# Altium schematic symbol library RK3128_BETA_V03_20151231_Library.SchLib: 45 symbols
Pins are listed as number, name and electrical type; pins without a type are passive.

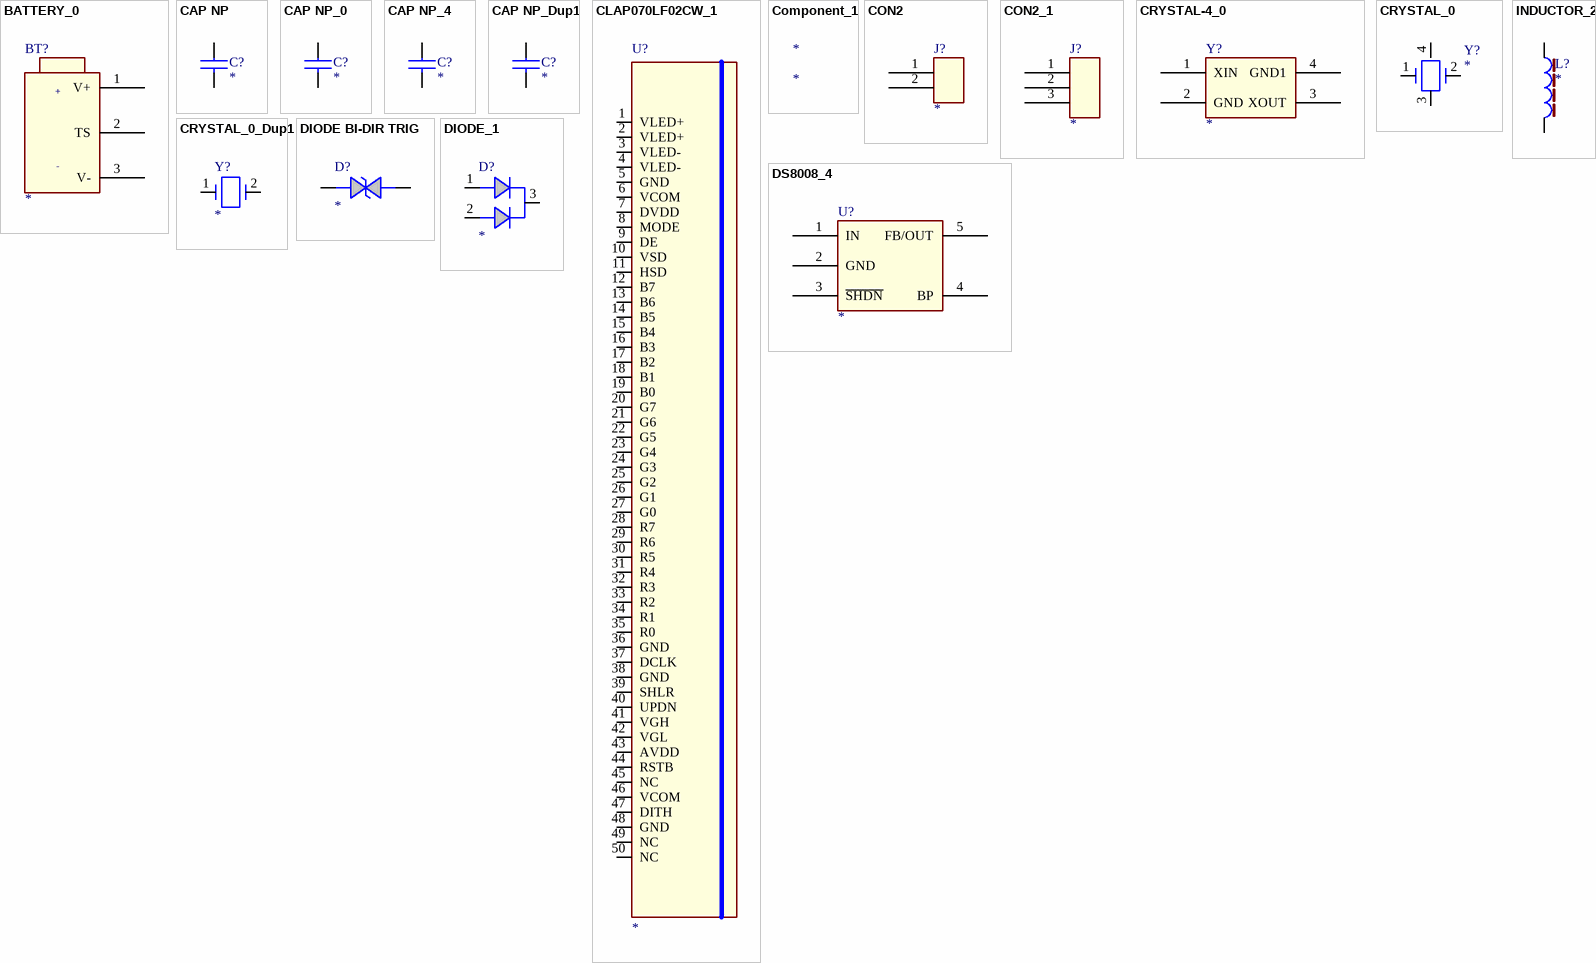
[diagram p0: symbols BATTERY_0 to INDUCTOR_2]

## BATTERY_0
designator BT?
pins: 1 V+, 2 TS, 3 V-
text: +; -

## CAP NP
designator C?
footprint C0402
pins: 1, 2

## CAP NP_0
designator C?
pins: 1, 2

## CAP NP_4
designator C?
pins: 1, 2

## CAP NP_Dup1
designator C?
footprint C0603
pins: 1, 2

## CLAP070LF02CW_1
designator U?
pins: 1 VLED+, 2 VLED+, 3 VLED-, 4 VLED-, 5 GND, 6 VCOM, 7 DVDD, 8 MODE, 9 DE, 10 VSD, 11 HSD, 12 B7, 13 B6, 14 B5, 15 B4, 16 B3, 17 B2, 18 B1, 19 B0, 20 G7, 21 G6, 22 G5, 23 G4, 24 G3, 25 G2, 26 G1, 27 G0, 28 R7, 29 R6, 30 R5, 31 R4, 32 R3, 33 R2, 34 R1, 35 R0, 36 GND, 37 DCLK, 38 GND, 39 SHLR, 40 UPDN, 41 VGH, 42 VGL, 43 AVDD, 44 RSTB, 45 NC, 46 VCOM, 47 DITH, 48 GND, 49 NC, 50 NC

## Component_1
designator *

## CON2
designator J?
pins: 1, 2

## CON2_1
designator J?
pins: 1, 2, 3

## CRYSTAL-4_0
designator Y?
footprint CRY-3225
pins: 1 XIN, 2 GND, 3 XOUT, 4 GND1

## CRYSTAL_0
designator Y?
pins: 1, 2, 3, 4

## CRYSTAL_0_Dup1
designator Y?
pins: 1, 2

## DIODE BI-DIR TRIG
designator D?
pins: 1, 2

## DIODE_1
designator D?
pins: 1 A1, 2 A2, 3 K

## DS8008_4
designator U?
pins: 1 IN, 2 GND, 3 ~{SHDN}, 4 BP, 5 FB/OUT

## INDUCTOR_2
designator L?
pins: 1, 2

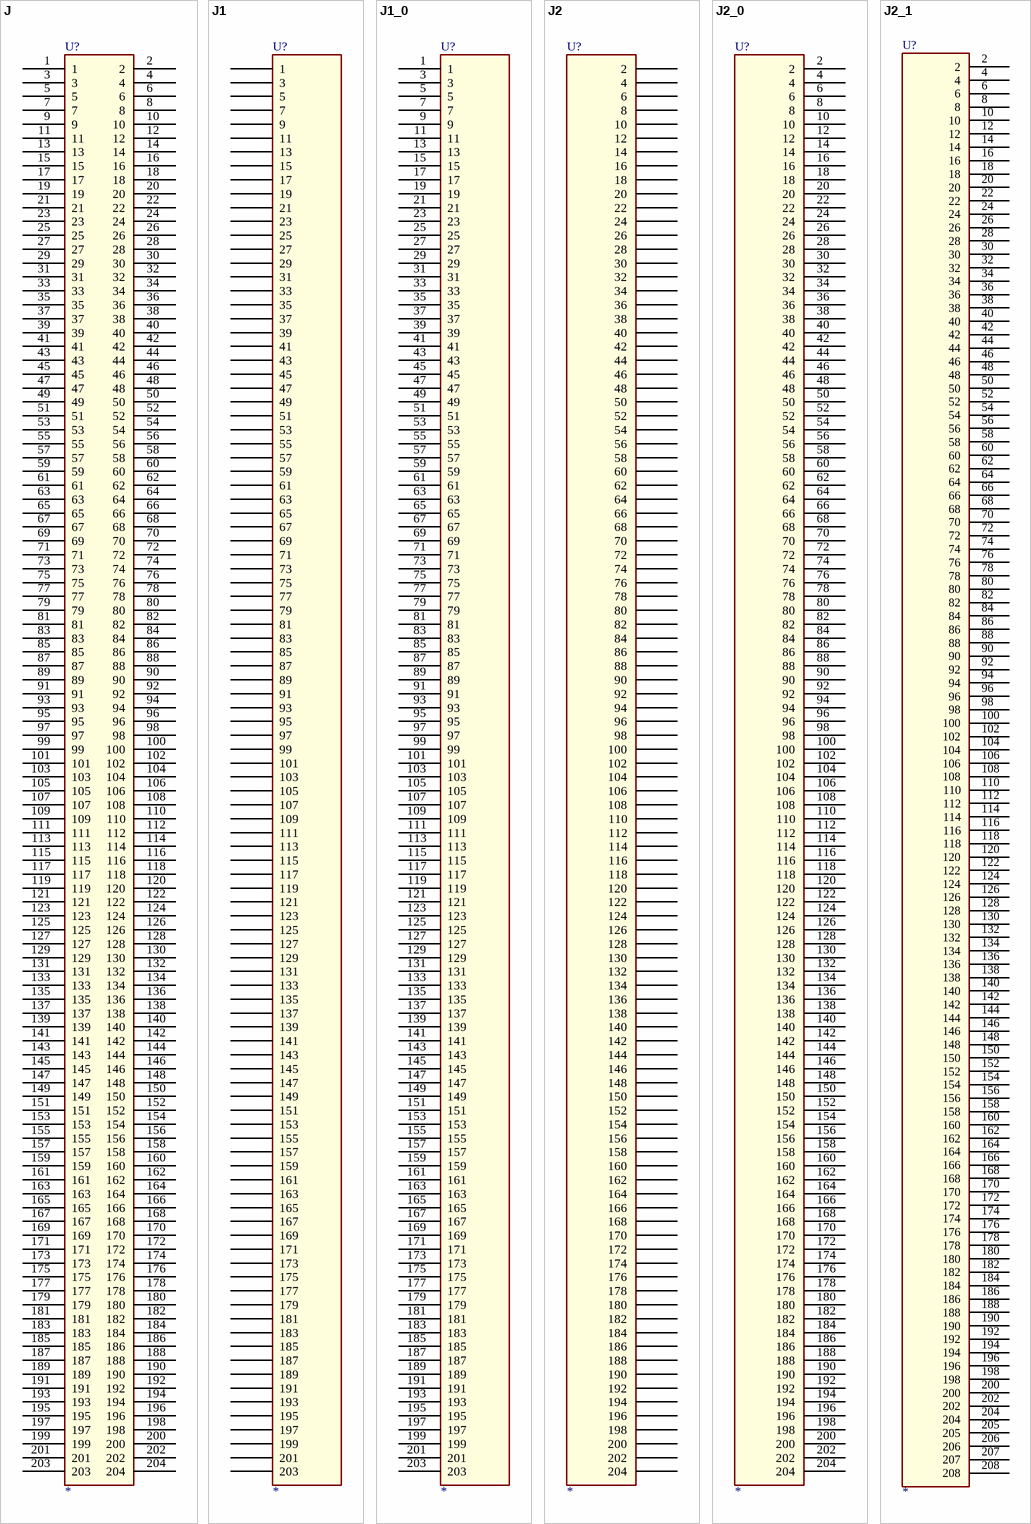
[diagram p1: symbols J to J2_1]

## J
designator U?
pins: 1, 2, 3, 4, 5, 6, 7, 8, 9, 10, 11, 12, 13, 14, 15, 16, 17, 18, 19, 20, 21, 22, 23, 24, 25, 26, 27, 28, 29, 30, 31, 32, 33, 34, 35, 36, 37, 38, 39, 40, 41, 42, 43, 44, 45, 46, 47, 48, 49, 50, 51, 52, 53, 54, 55, 56, 57, 58, 59, 60, 61, 62, 63, 64, 65, 66, 67, 68, 69, 70, 71, 72, 73, 74, 75, 76, 77, 78, 79, 80, 81, 82, 83, 84, 85, 86, 87, 88, 89, 90, 91, 92, 93, 94, 95, 96, 97, 98, 99, 100, 101, 102, 103, 104, 105, 106, 107, 108, 109, 110, 111, 112, 113, 114, 115, 116, 117, 118, 119, 120, 121, 122, 123, 124, 125, 126, 127, 128, 129, 130, 131, 132, 133, 134, 135, 136, 137, 138, 139, 140, 141, 142, 143, 144, 145, 146, 147, 148, 149, 150, 151, 152, 153, 154, 155, 156, 157, 158, 159, 160, 161, 162, 163, 164, 165, 166, 167, 168, 169, 170, 171, 172, 173, 174, 175, 176, 177, 178, 179, 180, 181, 182, 183, 184, 185, 186, 187, 188, 189, 190, 191, 192, 193, 194, 195, 196, 197, 198, 199, 200, 201, 202, 203, 204

## J1
designator U?
pins: 1, 3, 5, 7, 9, 11, 13, 15, 17, 19, 21, 23, 25, 27, 29, 31, 33, 35, 37, 39, 41, 43, 45, 47, 49, 51, 53, 55, 57, 59, 61, 63, 65, 67, 69, 71, 73, 75, 77, 79, 81, 83, 85, 87, 89, 91, 93, 95, 97, 99, 101, 103, 105, 107, 109, 111, 113, 115, 117, 119, 121, 123, 125, 127, 129, 131, 133, 135, 137, 139, 141, 143, 145, 147, 149, 151, 153, 155, 157, 159, 161, 163, 165, 167, 169, 171, 173, 175, 177, 179, 181, 183, 185, 187, 189, 191, 193, 195, 197, 199, 201, 203

## J1_0
designator U?
pins: 1, 3, 5, 7, 9, 11, 13, 15, 17, 19, 21, 23, 25, 27, 29, 31, 33, 35, 37, 39, 41, 43, 45, 47, 49, 51, 53, 55, 57, 59, 61, 63, 65, 67, 69, 71, 73, 75, 77, 79, 81, 83, 85, 87, 89, 91, 93, 95, 97, 99, 101, 103, 105, 107, 109, 111, 113, 115, 117, 119, 121, 123, 125, 127, 129, 131, 133, 135, 137, 139, 141, 143, 145, 147, 149, 151, 153, 155, 157, 159, 161, 163, 165, 167, 169, 171, 173, 175, 177, 179, 181, 183, 185, 187, 189, 191, 193, 195, 197, 199, 201, 203

## J2
designator U?
pins: 2, 4, 6, 8, 10, 12, 14, 16, 18, 20, 22, 24, 26, 28, 30, 32, 34, 36, 38, 40, 42, 44, 46, 48, 50, 52, 54, 56, 58, 60, 62, 64, 66, 68, 70, 72, 74, 76, 78, 80, 82, 84, 86, 88, 90, 92, 94, 96, 98, 100, 102, 104, 106, 108, 110, 112, 114, 116, 118, 120, 122, 124, 126, 128, 130, 132, 134, 136, 138, 140, 142, 144, 146, 148, 150, 152, 154, 156, 158, 160, 162, 164, 166, 168, 170, 172, 174, 176, 178, 180, 182, 184, 186, 188, 190, 192, 194, 196, 198, 200, 202, 204

## J2_0
designator U?
pins: 2, 4, 6, 8, 10, 12, 14, 16, 18, 20, 22, 24, 26, 28, 30, 32, 34, 36, 38, 40, 42, 44, 46, 48, 50, 52, 54, 56, 58, 60, 62, 64, 66, 68, 70, 72, 74, 76, 78, 80, 82, 84, 86, 88, 90, 92, 94, 96, 98, 100, 102, 104, 106, 108, 110, 112, 114, 116, 118, 120, 122, 124, 126, 128, 130, 132, 134, 136, 138, 140, 142, 144, 146, 148, 150, 152, 154, 156, 158, 160, 162, 164, 166, 168, 170, 172, 174, 176, 178, 180, 182, 184, 186, 188, 190, 192, 194, 196, 198, 200, 202, 204

## J2_1
designator U?
pins: 2, 4, 6, 8, 10, 12, 14, 16, 18, 20, 22, 24, 26, 28, 30, 32, 34, 36, 38, 40, 42, 44, 46, 48, 50, 52, 54, 56, 58, 60, 62, 64, 66, 68, 70, 72, 74, 76, 78, 80, 82, 84, 86, 88, 90, 92, 94, 96, 98, 100, 102, 104, 106, 108, 110, 112, 114, 116, 118, 120, 122, 124, 126, 128, 130, 132, 134, 136, 138, 140, 142, 144, 146, 148, 150, 152, 154, 156, 158, 160, 162, 164, 166, 168, 170, 172, 174, 176, 178, 180, 182, 184, 186, 188, 190, 192, 194, 196, 198, 200, 202, 204, 205, 206, 207, 208

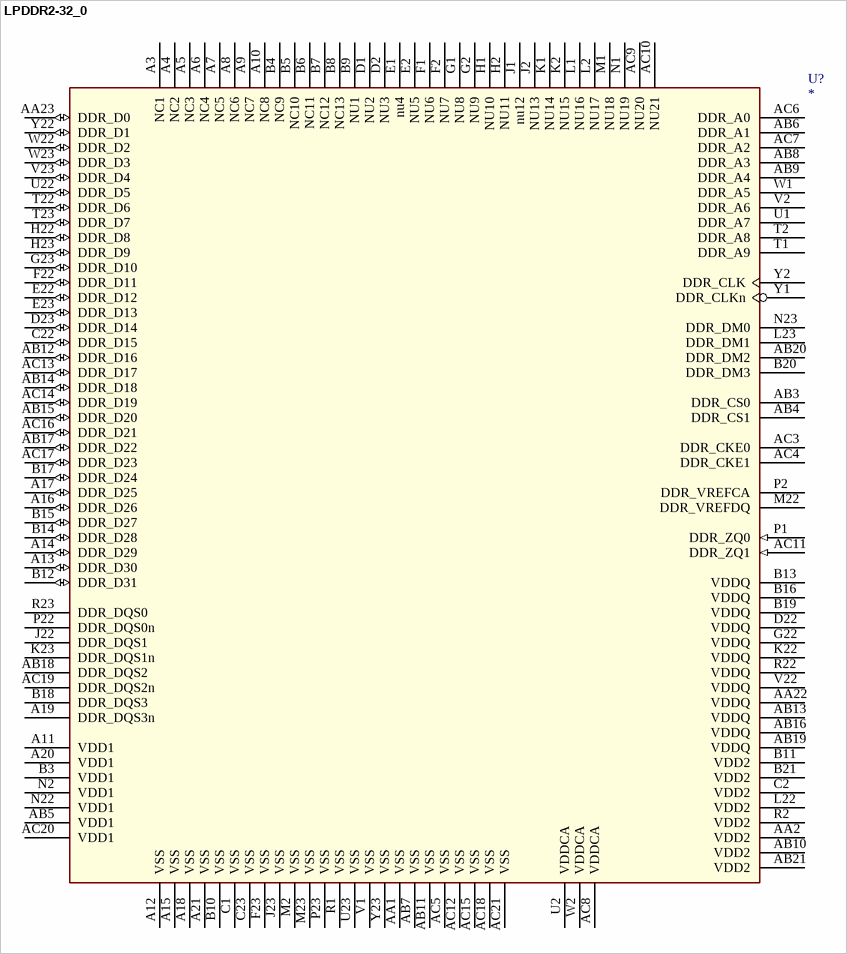
[diagram p2: symbol LPDDR2-32_0]

## LPDDR2-32_0
designator U?
footprint BGA134
pins: A3 NC1, A4 NC2, A5 NC3, A6 NC4, A7 NC5, A8 NC6, A9 NC7, A10 NC8, A11 VDD1 (power), A12 VSS (power), A13 DDR_D30 (io), A14 DDR_D29 (io), A15 VSS (power), A16 DDR_D26 (io), A17 DDR_D25 (io), A18 VSS (power), A19 DDR_DQS3n, A20 VDD1 (power), A21 VSS (power), AA1 VSS (power), AA2 VDD2 (power), AA22 VDDQ (power), AA23 DDR_D0 (io), AB3 DDR_CS0, AB4 DDR_CS1, AB5 VDD1 (power), AB6 DDR_A1, AB7 VSS (power), AB8 DDR_A3, AB9 DDR_A4, AB10 VDD2 (power), AB11 VSS (power), AB12 DDR_D16 (io), AB13 VDDQ (power), AB14 DDR_D18 (io), AB15 DDR_D20 (io), AB16 VDDQ (power), AB17 DDR_D22 (io), AB18 DDR_DQS2, AB19 VDDQ (power), AB20 DDR_DM2, AB21 VDD2 (power), AC3 DDR_CKE0, AC4 DDR_CKE1, AC5 VSS (power), AC6 DDR_A0, AC7 DDR_A2, AC8 VDDCA (power), AC9 NU20, AC10 NU21, AC11 DDR_ZQ1 (in), AC12 VSS (power), AC13 DDR_D17 (io), AC14 DDR_D19 (io), AC15 VSS (power), AC16 DDR_D21 (io), AC17 DDR_D23 (io), AC18 VSS (power), AC19 DDR_DQS2n, AC20 VDD1 (power), AC21 VSS (power), B3 VDD1 (power), B4 NC9, B5 NC10, B6 NC11, B7 NC12, B8 NC13, B9 NU1, B10 VSS (power), B11 VDD2 (power), B12 DDR_D31 (io), B13 VDDQ (power), B14 DDR_D28 (io), B15 DDR_D27 (io), B16 VDDQ (power), B17 DDR_D24 (io), B18 DDR_DQS3, B19 VDDQ (power), B20 DDR_DM3, B21 VDD2 (power), C1 VSS (power), C2 VDD2 (power), C22 DDR_D15 (io), C23 VSS (power), D1 NU2, D2 NU3, D22 VDDQ (power), D23 DDR_D14 (io), E1 nu4, E2 NU5, E22 DDR_D12 (io), E23 DDR_D13 (io), F1 NU6, F2 NU7, F22 DDR_D11 (io), F23 VSS (power), G1 NU8, G2 NU9, G22 VDDQ (power), G23 DDR_D10 (io), H1 NU10, H2 NU11, H22 DDR_D8 (io), H23 DDR_D9 (io), J1 nu12, J2 NU13, J22 DDR_DQS1, J23 VSS (power), K1 NU14, K2 NU15, K22 VDDQ (power), K23 DDR_DQS1n, L1 NU16, L2 NU17, L22 VDD2 (power), L23 DDR_DM1, M1 NU18, M2 VSS (power), M22 DDR_VREFDQ (power), M23 VSS (power), N1 NU19, N2 VDD1 (power), N22 VDD1 (power), N23 DDR_DM0, P1 DDR_ZQ0 (in), P2 DDR_VREFCA, P22 DDR_DQS0n, P23 VSS (power), R1 VSS (power), R2 VDD2 (power), R22 VDDQ (power), R23 DDR_DQS0, T1 DDR_A9, T2 DDR_A8, T22 DDR_D6 (io), T23 DDR_D7 (io), U1 DDR_A7, U2 VDDCA (power), U22 DDR_D5 (io), U23 VSS (power), V1 VSS (power), V2 DDR_A6, V22 VDDQ (power), V23 DDR_D4 (io), W1 DDR_A5, W2 VDDCA (power), W22 DDR_D2 (io), W23 DDR_D3 (io), Y1 DDR_CLKn, Y2 DDR_CLK, Y22 DDR_D1 (io), Y23 VSS (power)

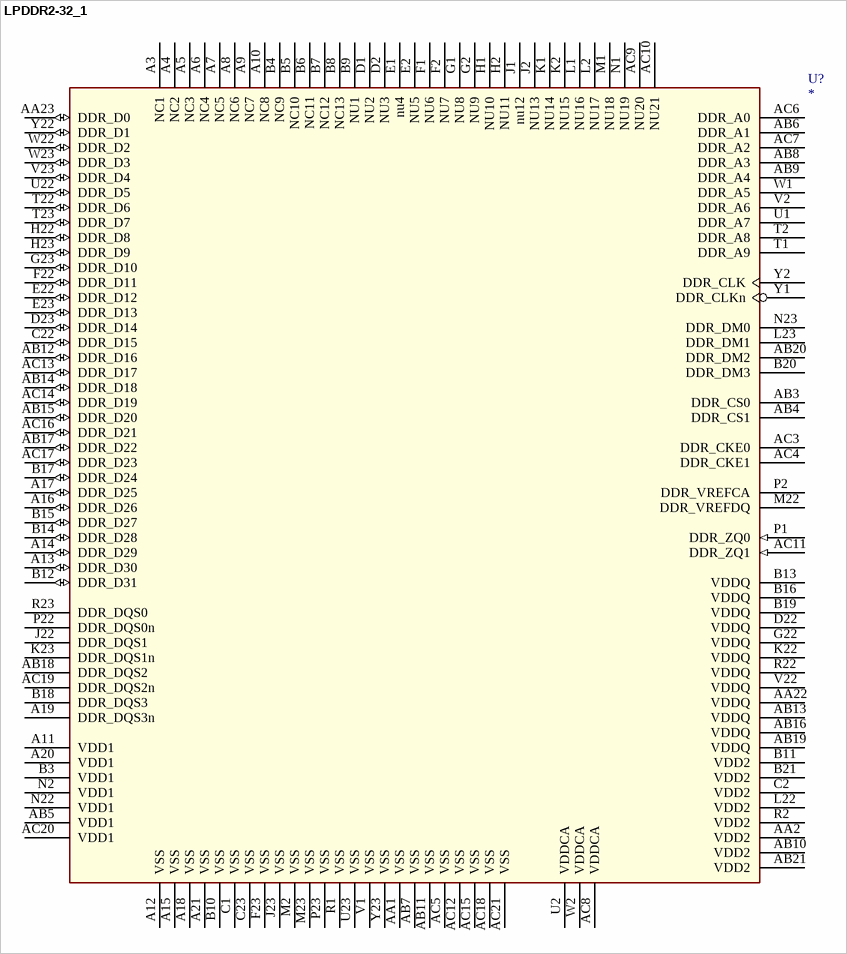
[diagram p3: symbol LPDDR2-32_1]

## LPDDR2-32_1
designator U?
footprint BGA134
pins: A3 NC1, A4 NC2, A5 NC3, A6 NC4, A7 NC5, A8 NC6, A9 NC7, A10 NC8, A11 VDD1 (power), A12 VSS (power), A13 DDR_D30 (io), A14 DDR_D29 (io), A15 VSS (power), A16 DDR_D26 (io), A17 DDR_D25 (io), A18 VSS (power), A19 DDR_DQS3n, A20 VDD1 (power), A21 VSS (power), AA1 VSS (power), AA2 VDD2 (power), AA22 VDDQ (power), AA23 DDR_D0 (io), AB3 DDR_CS0, AB4 DDR_CS1, AB5 VDD1 (power), AB6 DDR_A1, AB7 VSS (power), AB8 DDR_A3, AB9 DDR_A4, AB10 VDD2 (power), AB11 VSS (power), AB12 DDR_D16 (io), AB13 VDDQ (power), AB14 DDR_D18 (io), AB15 DDR_D20 (io), AB16 VDDQ (power), AB17 DDR_D22 (io), AB18 DDR_DQS2, AB19 VDDQ (power), AB20 DDR_DM2, AB21 VDD2 (power), AC3 DDR_CKE0, AC4 DDR_CKE1, AC5 VSS (power), AC6 DDR_A0, AC7 DDR_A2, AC8 VDDCA (power), AC9 NU20, AC10 NU21, AC11 DDR_ZQ1 (in), AC12 VSS (power), AC13 DDR_D17 (io), AC14 DDR_D19 (io), AC15 VSS (power), AC16 DDR_D21 (io), AC17 DDR_D23 (io), AC18 VSS (power), AC19 DDR_DQS2n, AC20 VDD1 (power), AC21 VSS (power), B3 VDD1 (power), B4 NC9, B5 NC10, B6 NC11, B7 NC12, B8 NC13, B9 NU1, B10 VSS (power), B11 VDD2 (power), B12 DDR_D31 (io), B13 VDDQ (power), B14 DDR_D28 (io), B15 DDR_D27 (io), B16 VDDQ (power), B17 DDR_D24 (io), B18 DDR_DQS3, B19 VDDQ (power), B20 DDR_DM3, B21 VDD2 (power), C1 VSS (power), C2 VDD2 (power), C22 DDR_D15 (io), C23 VSS (power), D1 NU2, D2 NU3, D22 VDDQ (power), D23 DDR_D14 (io), E1 nu4, E2 NU5, E22 DDR_D12 (io), E23 DDR_D13 (io), F1 NU6, F2 NU7, F22 DDR_D11 (io), F23 VSS (power), G1 NU8, G2 NU9, G22 VDDQ (power), G23 DDR_D10 (io), H1 NU10, H2 NU11, H22 DDR_D8 (io), H23 DDR_D9 (io), J1 nu12, J2 NU13, J22 DDR_DQS1, J23 VSS (power), K1 NU14, K2 NU15, K22 VDDQ (power), K23 DDR_DQS1n, L1 NU16, L2 NU17, L22 VDD2 (power), L23 DDR_DM1, M1 NU18, M2 VSS (power), M22 DDR_VREFDQ (power), M23 VSS (power), N1 NU19, N2 VDD1 (power), N22 VDD1 (power), N23 DDR_DM0, P1 DDR_ZQ0 (in), P2 DDR_VREFCA, P22 DDR_DQS0n, P23 VSS (power), R1 VSS (power), R2 VDD2 (power), R22 VDDQ (power), R23 DDR_DQS0, T1 DDR_A9, T2 DDR_A8, T22 DDR_D6 (io), T23 DDR_D7 (io), U1 DDR_A7, U2 VDDCA (power), U22 DDR_D5 (io), U23 VSS (power), V1 VSS (power), V2 DDR_A6, V22 VDDQ (power), V23 DDR_D4 (io), W1 DDR_A5, W2 VDDCA (power), W22 DDR_D2 (io), W23 DDR_D3 (io), Y1 DDR_CLKn, Y2 DDR_CLK, Y22 DDR_D1 (io), Y23 VSS (power)

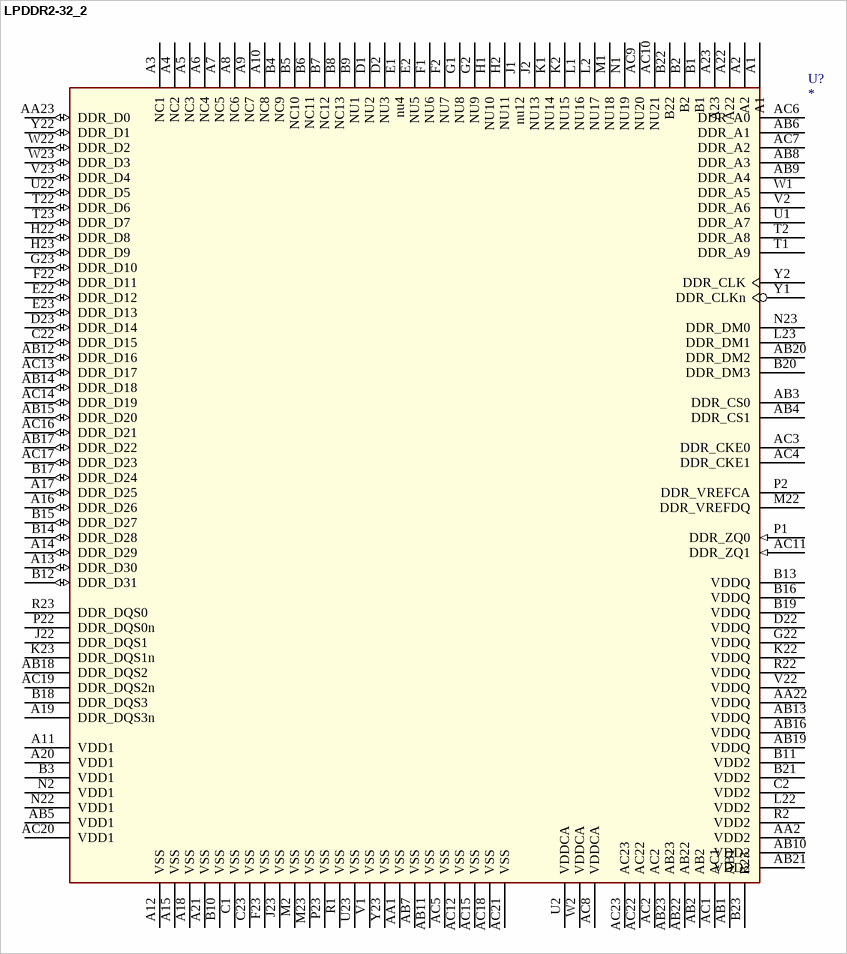
[diagram p4: symbol LPDDR2-32_2]

## LPDDR2-32_2
designator U?
footprint BGA134
pins: A1, A2, A3 NC1, A4 NC2, A5 NC3, A6 NC4, A7 NC5, A8 NC6, A9 NC7, A10 NC8, A11 VDD1 (power), A12 VSS (power), A13 DDR_D30 (io), A14 DDR_D29 (io), A15 VSS (power), A16 DDR_D26 (io), A17 DDR_D25 (io), A18 VSS (power), A19 DDR_DQS3n, A20 VDD1 (power), A21 VSS (power), A22, A23, AA1 VSS (power), AA2 VDD2 (power), AA22 VDDQ (power), AA23 DDR_D0 (io), AB1 (power), AB2 (power), AB3 DDR_CS0, AB4 DDR_CS1, AB5 VDD1 (power), AB6 DDR_A1, AB7 VSS (power), AB8 DDR_A3, AB9 DDR_A4, AB10 VDD2 (power), AB11 VSS (power), AB12 DDR_D16 (io), AB13 VDDQ (power), AB14 DDR_D18 (io), AB15 DDR_D20 (io), AB16 VDDQ (power), AB17 DDR_D22 (io), AB18 DDR_DQS2, AB19 VDDQ (power), AB20 DDR_DM2, AB21 VDD2 (power), AB22 (power), AB23 (power), AC1 (power), AC2 (power), AC3 DDR_CKE0, AC4 DDR_CKE1, AC5 VSS (power), AC6 DDR_A0, AC7 DDR_A2, AC8 VDDCA (power), AC9 NU20, AC10 NU21, AC11 DDR_ZQ1 (in), AC12 VSS (power), AC13 DDR_D17 (io), AC14 DDR_D19 (io), AC15 VSS (power), AC16 DDR_D21 (io), AC17 DDR_D23 (io), AC18 VSS (power), AC19 DDR_DQS2n, AC20 VDD1 (power), AC21 VSS (power), AC22 (power), AC23 (power), B1, B2, B3 VDD1 (power), B4 NC9, B5 NC10, B6 NC11, B7 NC12, B8 NC13, B9 NU1, B10 VSS (power), B11 VDD2 (power), B12 DDR_D31 (io), B13 VDDQ (power), B14 DDR_D28 (io), B15 DDR_D27 (io), B16 VDDQ (power), B17 DDR_D24 (io), B18 DDR_DQS3, B19 VDDQ (power), B20 DDR_DM3, B21 VDD2 (power), B22, B23 (power), C1 VSS (power), C2 VDD2 (power), C22 DDR_D15 (io), C23 VSS (power), D1 NU2, D2 NU3, D22 VDDQ (power), D23 DDR_D14 (io), E1 nu4, E2 NU5, E22 DDR_D12 (io), E23 DDR_D13 (io), F1 NU6, F2 NU7, F22 DDR_D11 (io), F23 VSS (power), G1 NU8, G2 NU9, G22 VDDQ (power), G23 DDR_D10 (io), H1 NU10, H2 NU11, H22 DDR_D8 (io), H23 DDR_D9 (io), J1 nu12, J2 NU13, J22 DDR_DQS1, J23 VSS (power), K1 NU14, K2 NU15, K22 VDDQ (power), K23 DDR_DQS1n, L1 NU16, L2 NU17, L22 VDD2 (power), L23 DDR_DM1, M1 NU18, M2 VSS (power), M22 DDR_VREFDQ (power), M23 VSS (power), N1 NU19, N2 VDD1 (power), N22 VDD1 (power), N23 DDR_DM0, P1 DDR_ZQ0 (in), P2 DDR_VREFCA, P22 DDR_DQS0n, P23 VSS (power), R1 VSS (power), R2 VDD2 (power), R22 VDDQ (power), R23 DDR_DQS0, T1 DDR_A9, T2 DDR_A8, T22 DDR_D6 (io), T23 DDR_D7 (io), U1 DDR_A7, U2 VDDCA (power), U22 DDR_D5 (io), U23 VSS (power), V1 VSS (power), V2 DDR_A6, V22 VDDQ (power), V23 DDR_D4 (io), W1 DDR_A5, W2 VDDCA (power), W22 DDR_D2 (io), W23 DDR_D3 (io), Y1 DDR_CLKn, Y2 DDR_CLK, Y22 DDR_D1 (io), Y23 VSS (power)

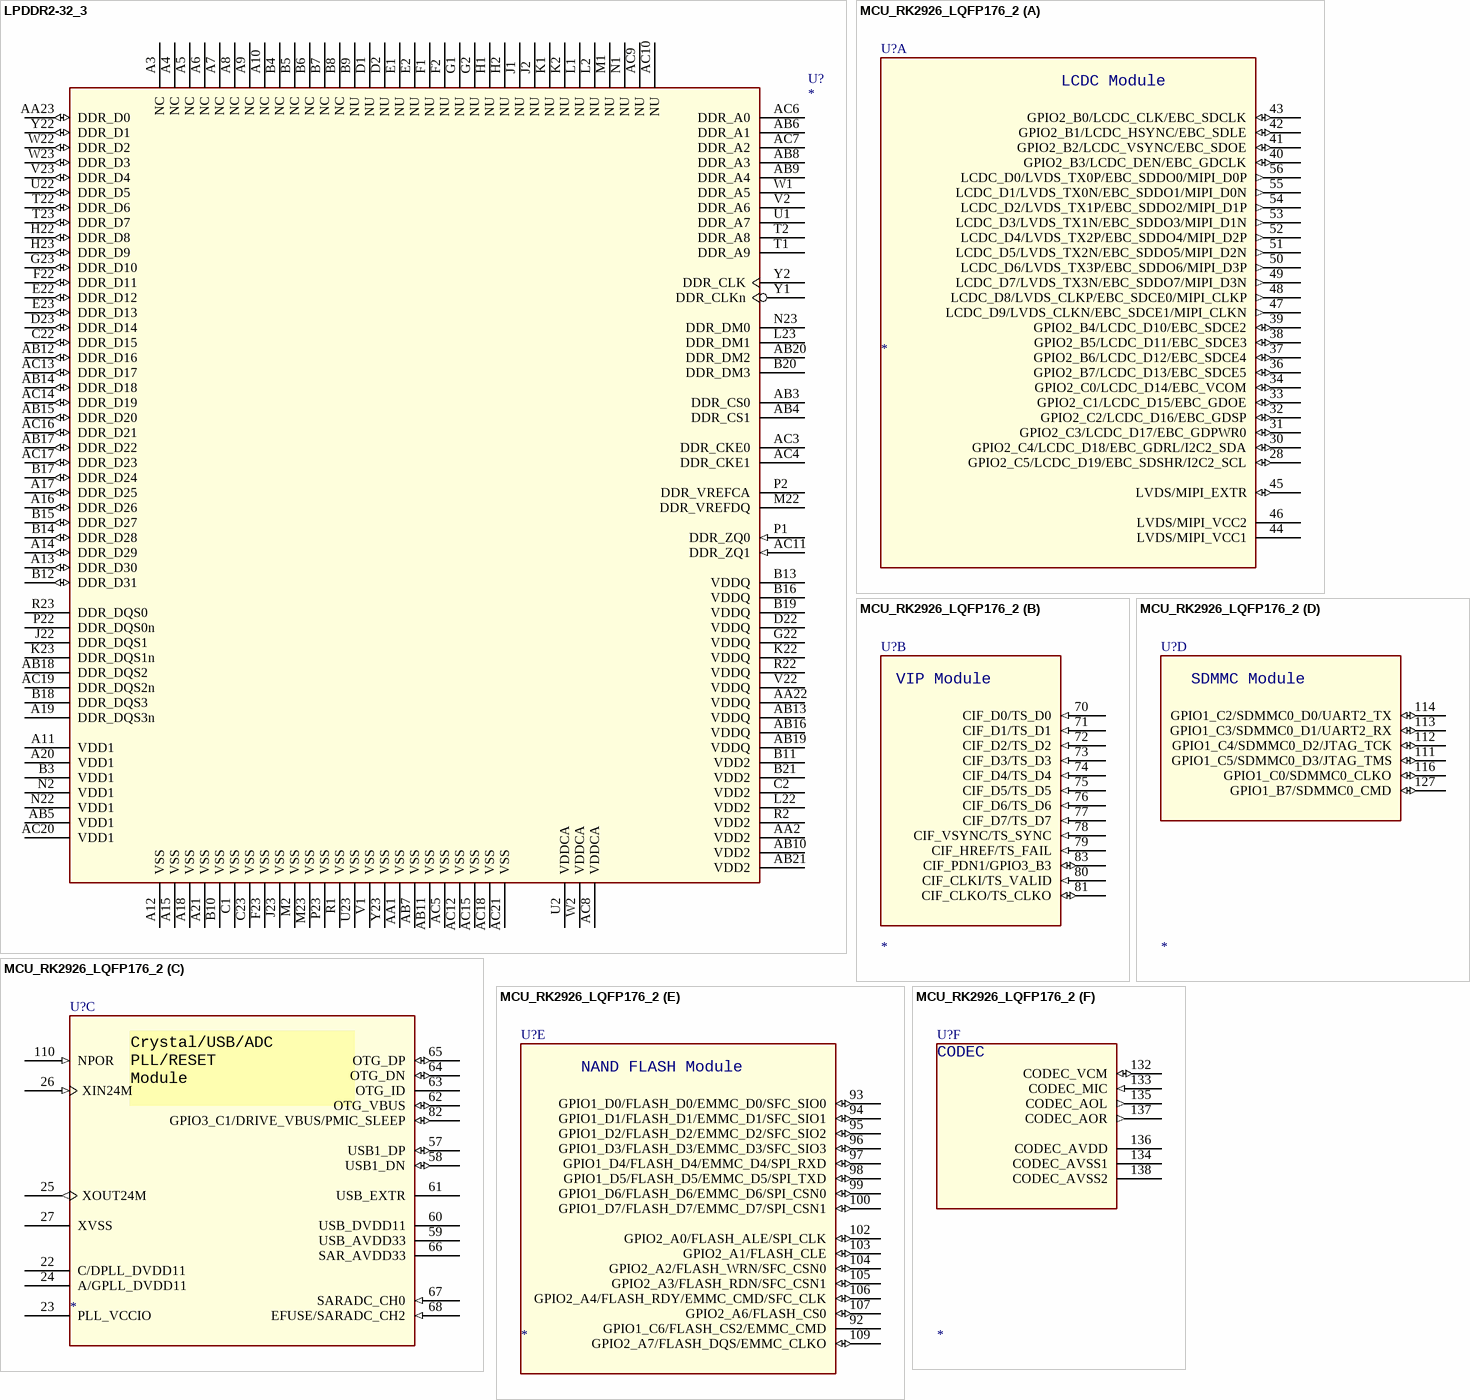
[diagram p5: symbols LPDDR2-32_3 to MCU_RK2926_LQFP176_2]

## LPDDR2-32_3
designator U?
footprint BGA134
pins: A3 NC, A4 NC, A5 NC, A6 NC, A7 NC, A8 NC, A9 NC, A10 NC, A11 VDD1 (power), A12 VSS (power), A13 DDR_D30 (io), A14 DDR_D29 (io), A15 VSS (power), A16 DDR_D26 (io), A17 DDR_D25 (io), A18 VSS (power), A19 DDR_DQS3n, A20 VDD1 (power), A21 VSS (power), AA1 VSS (power), AA2 VDD2 (power), AA22 VDDQ (power), AA23 DDR_D0 (io), AB3 DDR_CS0, AB4 DDR_CS1, AB5 VDD1 (power), AB6 DDR_A1, AB7 VSS (power), AB8 DDR_A3, AB9 DDR_A4, AB10 VDD2 (power), AB11 VSS (power), AB12 DDR_D16 (io), AB13 VDDQ (power), AB14 DDR_D18 (io), AB15 DDR_D20 (io), AB16 VDDQ (power), AB17 DDR_D22 (io), AB18 DDR_DQS2, AB19 VDDQ (power), AB20 DDR_DM2, AB21 VDD2 (power), AC3 DDR_CKE0, AC4 DDR_CKE1, AC5 VSS (power), AC6 DDR_A0, AC7 DDR_A2, AC8 VDDCA (power), AC9 NU, AC10 NU, AC11 DDR_ZQ1 (in), AC12 VSS (power), AC13 DDR_D17 (io), AC14 DDR_D19 (io), AC15 VSS (power), AC16 DDR_D21 (io), AC17 DDR_D23 (io), AC18 VSS (power), AC19 DDR_DQS2n, AC20 VDD1 (power), AC21 VSS (power), B3 VDD1 (power), B4 NC, B5 NC, B6 NC, B7 NC, B8 NC, B9 NU, B10 VSS (power), B11 VDD2 (power), B12 DDR_D31 (io), B13 VDDQ (power), B14 DDR_D28 (io), B15 DDR_D27 (io), B16 VDDQ (power), B17 DDR_D24 (io), B18 DDR_DQS3, B19 VDDQ (power), B20 DDR_DM3, B21 VDD2 (power), C1 VSS (power), C2 VDD2 (power), C22 DDR_D15 (io), C23 VSS (power), D1 NU, D2 NU, D22 VDDQ (power), D23 DDR_D14 (io), E1 NU, E2 NU, E22 DDR_D12 (io), E23 DDR_D13 (io), F1 NU, F2 NU, F22 DDR_D11 (io), F23 VSS (power), G1 NU, G2 NU, G22 VDDQ (power), G23 DDR_D10 (io), H1 NU, H2 NU, H22 DDR_D8 (io), H23 DDR_D9 (io), J1 NU, J2 NU, J22 DDR_DQS1, J23 VSS (power), K1 NU, K2 NU, K22 VDDQ (power), K23 DDR_DQS1n, L1 NU, L2 NU, L22 VDD2 (power), L23 DDR_DM1, M1 NU, M2 VSS (power), M22 DDR_VREFDQ (power), M23 VSS (power), N1 NU, N2 VDD1 (power), N22 VDD1 (power), N23 DDR_DM0, P1 DDR_ZQ0 (in), P2 DDR_VREFCA, P22 DDR_DQS0n, P23 VSS (power), R1 VSS (power), R2 VDD2 (power), R22 VDDQ (power), R23 DDR_DQS0, T1 DDR_A9, T2 DDR_A8, T22 DDR_D6 (io), T23 DDR_D7 (io), U1 DDR_A7, U2 VDDCA (power), U22 DDR_D5 (io), U23 VSS (power), V1 VSS (power), V2 DDR_A6, V22 VDDQ (power), V23 DDR_D4 (io), W1 DDR_A5, W2 VDDCA (power), W22 DDR_D2 (io), W23 DDR_D3 (io), Y1 DDR_CLKn, Y2 DDR_CLK, Y22 DDR_D1 (io), Y23 VSS (power)

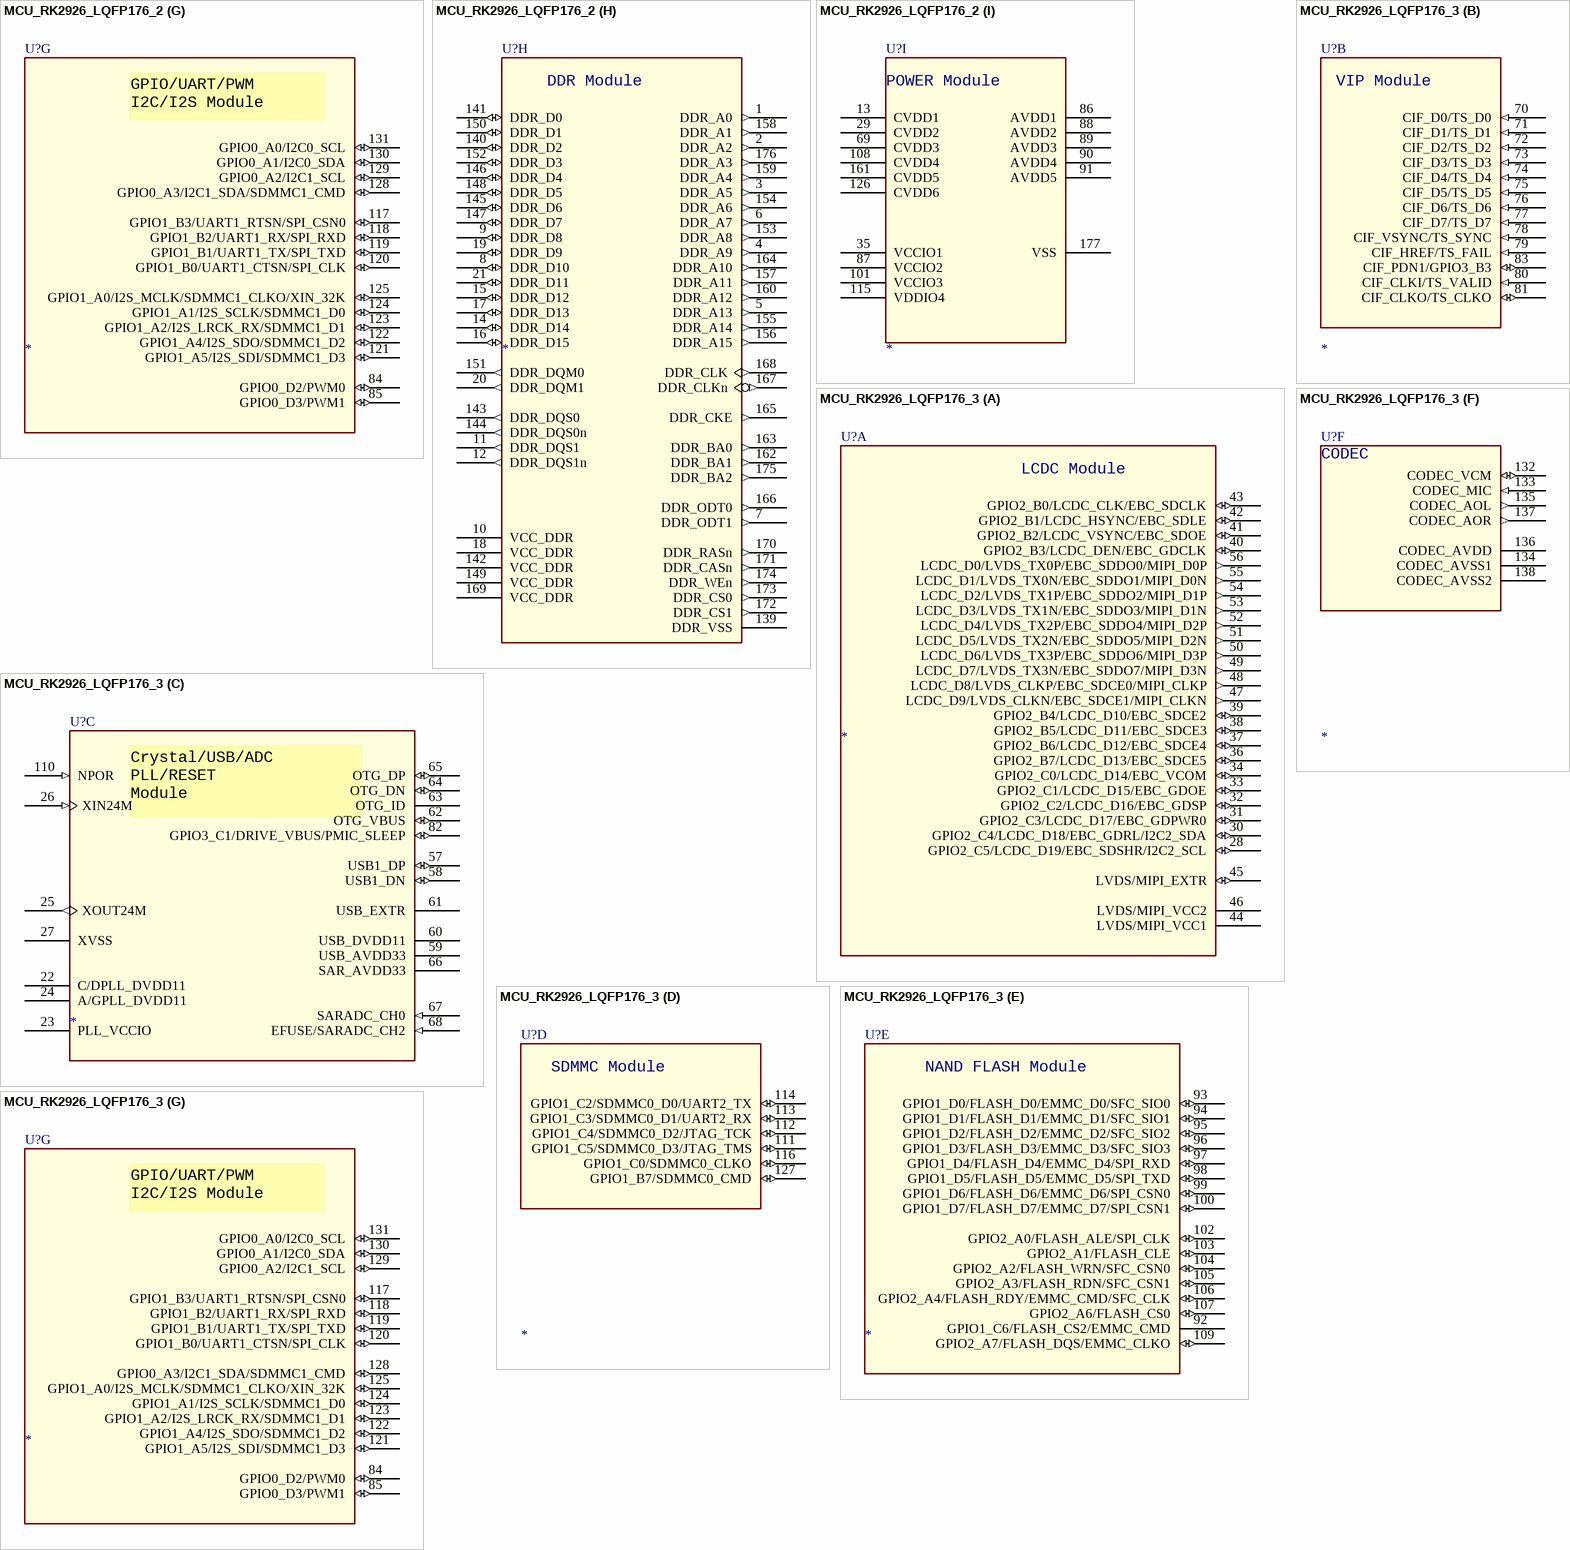
[diagram p6: symbols MCU_RK2926_LQFP176_2 to MCU_RK2926_LQFP176_3]

## MCU_RK2926_LQFP176_2
designator U?
footprint LQFP176_16X16
part A pins: 28 GPIO2_C5/LCDC_D19/EBC_SDSHR/I2C2_SCL (io), 30 GPIO2_C4/LCDC_D18/EBC_GDRL/I2C2_SDA (io), 31 GPIO2_C3/LCDC_D17/EBC_GDPWR0 (io), 32 GPIO2_C2/LCDC_D16/EBC_GDSP (io), 33 GPIO2_C1/LCDC_D15/EBC_GDOE (io), 34 GPIO2_C0/LCDC_D14/EBC_VCOM (io), 36 GPIO2_B7/LCDC_D13/EBC_SDCE5 (io), 37 GPIO2_B6/LCDC_D12/EBC_SDCE4 (io), 38 GPIO2_B5/LCDC_D11/EBC_SDCE3 (io), 39 GPIO2_B4/LCDC_D10/EBC_SDCE2 (io), 40 GPIO2_B3/LCDC_DEN/EBC_GDCLK (io), 41 GPIO2_B2/LCDC_VSYNC/EBC_SDOE (io), 42 GPIO2_B1/LCDC_HSYNC/EBC_SDLE (io), 43 GPIO2_B0/LCDC_CLK/EBC_SDCLK (io), 44 LVDS/MIPI_VCC1 (power), 45 LVDS/MIPI_EXTR (io), 46 LVDS/MIPI_VCC2 (power), 47 LCDC_D9/LVDS_CLKN/EBC_SDCE1/MIPI_CLKN (out), 48 LCDC_D8/LVDS_CLKP/EBC_SDCE0/MIPI_CLKP (out), 49 LCDC_D7/LVDS_TX3N/EBC_SDDO7/MIPI_D3N (out), 50 LCDC_D6/LVDS_TX3P/EBC_SDDO6/MIPI_D3P (out), 51 LCDC_D5/LVDS_TX2N/EBC_SDDO5/MIPI_D2N (out), 52 LCDC_D4/LVDS_TX2P/EBC_SDDO4/MIPI_D2P (out), 53 LCDC_D3/LVDS_TX1N/EBC_SDDO3/MIPI_D1N (out), 54 LCDC_D2/LVDS_TX1P/EBC_SDDO2/MIPI_D1P (out), 55 LCDC_D1/LVDS_TX0N/EBC_SDDO1/MIPI_D0N (out), 56 LCDC_D0/LVDS_TX0P/EBC_SDDO0/MIPI_D0P (out)
part B pins: 70 CIF_D0/TS_D0 (in), 71 CIF_D1/TS_D1 (in), 72 CIF_D2/TS_D2 (in), 73 CIF_D3/TS_D3 (in), 74 CIF_D4/TS_D4 (in), 75 CIF_D5/TS_D5 (in), 76 CIF_D6/TS_D6 (in), 77 CIF_D7/TS_D7 (in), 78 CIF_VSYNC/TS_SYNC (in), 79 CIF_HREF/TS_FAIL (in), 80 CIF_CLKI/TS_VALID (in), 81 CIF_CLKO/TS_CLKO (io), 83 CIF_PDN1/GPIO3_B3 (io)
part C pins: 22 C/DPLL_DVDD11 (power), 23 PLL_VCCIO (power), 24 A/GPLL_DVDD11 (power), 25 XOUT24M (out), 26 XIN24M (in), 27 XVSS (power), 57 USB1_DP (io), 58 USB1_DN (io), 59 USB_AVDD33 (power), 60 USB_DVDD11 (power), 61 USB_EXTR (power), 62 OTG_VBUS (io), 63 OTG_ID, 64 OTG_DN (io), 65 OTG_DP (io), 66 SAR_AVDD33 (power), 67 SARADC_CH0 (in), 68 EFUSE/SARADC_CH2 (in), 82 GPIO3_C1/DRIVE_VBUS/PMIC_SLEEP (io), 110 NPOR (in)
part D pins: 111 GPIO1_C5/SDMMC0_D3/JTAG_TMS (io), 112 GPIO1_C4/SDMMC0_D2/JTAG_TCK (io), 113 GPIO1_C3/SDMMC0_D1/UART2_RX (io), 114 GPIO1_C2/SDMMC0_D0/UART2_TX (io), 116 GPIO1_C0/SDMMC0_CLKO (io), 127 GPIO1_B7/SDMMC0_CMD (io)
part E pins: 92 GPIO1_C6/FLASH_CS2/EMMC_CMD, 93 GPIO1_D0/FLASH_D0/EMMC_D0/SFC_SIO0 (io), 94 GPIO1_D1/FLASH_D1/EMMC_D1/SFC_SIO1 (io), 95 GPIO1_D2/FLASH_D2/EMMC_D2/SFC_SIO2 (io), 96 GPIO1_D3/FLASH_D3/EMMC_D3/SFC_SIO3 (io), 97 GPIO1_D4/FLASH_D4/EMMC_D4/SPI_RXD (io), 98 GPIO1_D5/FLASH_D5/EMMC_D5/SPI_TXD (io), 99 GPIO1_D6/FLASH_D6/EMMC_D6/SPI_CSN0 (io), 100 GPIO1_D7/FLASH_D7/EMMC_D7/SPI_CSN1 (io), 102 GPIO2_A0/FLASH_ALE/SPI_CLK (io), 103 GPIO2_A1/FLASH_CLE (io), 104 GPIO2_A2/FLASH_WRN/SFC_CSN0 (io), 105 GPIO2_A3/FLASH_RDN/SFC_CSN1 (io), 106 GPIO2_A4/FLASH_RDY/EMMC_CMD/SFC_CLK (io), 107 GPIO2_A6/FLASH_CS0 (io), 109 GPIO2_A7/FLASH_DQS/EMMC_CLKO (io)
part F pins: 132 CODEC_VCM (io), 133 CODEC_MIC (in), 134 CODEC_AVSS1, 135 CODEC_AOL (out), 136 CODEC_AVDD (power), 137 CODEC_AOR (out), 138 CODEC_AVSS2
part G pins: 84 GPIO0_D2/PWM0 (io), 85 GPIO0_D3/PWM1 (io), 117 GPIO1_B3/UART1_RTSN/SPI_CSN0 (io), 118 GPIO1_B2/UART1_RX/SPI_RXD (io), 119 GPIO1_B1/UART1_TX/SPI_TXD (io), 120 GPIO1_B0/UART1_CTSN/SPI_CLK (io), 121 GPIO1_A5/I2S_SDI/SDMMC1_D3 (io), 122 GPIO1_A4/I2S_SDO/SDMMC1_D2 (io), 123 GPIO1_A2/I2S_LRCK_RX/SDMMC1_D1 (io), 124 GPIO1_A1/I2S_SCLK/SDMMC1_D0 (io), 125 GPIO1_A0/I2S_MCLK/SDMMC1_CLKO/XIN_32K (io), 128 GPIO0_A3/I2C1_SDA/SDMMC1_CMD (io), 129 GPIO0_A2/I2C1_SCL (io), 130 GPIO0_A1/I2C0_SDA (io), 131 GPIO0_A0/I2C0_SCL (io)
part H pins: 1 DDR_A0 (out), 2 DDR_A2 (out), 3 DDR_A5 (out), 4 DDR_A9 (out), 5 DDR_A13 (out), 6 DDR_A7 (out), 7 DDR_ODT1 (out), 8 DDR_D10 (io), 9 DDR_D8 (io), 10 VCC_DDR (power), 11 DDR_DQS1 (out), 12 DDR_DQS1n (out), 14 DDR_D14 (io), 15 DDR_D12 (io), 16 DDR_D15 (io), 17 DDR_D13 (io), 18 VCC_DDR (power), 19 DDR_D9 (io), 20 DDR_DQM1 (out), 21 DDR_D11 (io), 139 DDR_VSS, 140 DDR_D2 (io), 141 DDR_D0 (io), 142 VCC_DDR (power), 143 DDR_DQS0 (out), 144 DDR_DQS0n (out), 145 DDR_D6 (io), 146 DDR_D4 (io), 147 DDR_D7 (io), 148 DDR_D5 (io), 149 VCC_DDR (power), 150 DDR_D1 (io), 151 DDR_DQM0 (out), 152 DDR_D3 (io), 153 DDR_A8 (out), 154 DDR_A6 (out), 155 DDR_A14 (out), 156 DDR_A15 (out), 157 DDR_A11 (out), 158 DDR_A1 (out), 159 DDR_A4 (out), 160 DDR_A12 (out), 162 DDR_BA1 (out), 163 DDR_BA0 (out), 164 DDR_A10 (out), 165 DDR_CKE (out), 166 DDR_ODT0 (out), 167 DDR_CLKn (out), 168 DDR_CLK (out), 169 VCC_DDR (power), 170 DDR_RASn (out), 171 DDR_CASn (out), 172 DDR_CS1 (out), 173 DDR_CS0 (out), 174 DDR_WEn (out), 175 DDR_BA2 (out), 176 DDR_A3 (out)
part I pins: 13 CVDD1 (power), 29 CVDD2 (power), 35 VCCIO1 (power), 69 CVDD3 (power), 86 AVDD1 (power), 87 VCCIO2 (power), 88 AVDD2 (power), 89 AVDD3 (power), 90 AVDD4 (power), 91 AVDD5 (power), 101 VCCIO3 (power), 108 CVDD4 (power), 115 VDDIO4 (power), 126 CVDD6 (power), 161 CVDD5 (power), 177 VSS (power)
part A text: LCDC Module
part B text: VIP Module
part C text: Crystal/USB/ADC / PLL/RESET / Module
part D text: SDMMC Module
part E text: NAND FLASH Module
part F text: CODEC
part G text: GPIO/UART/PWM / I2C/I2S Module
part H text: DDR Module
part I text: POWER Module

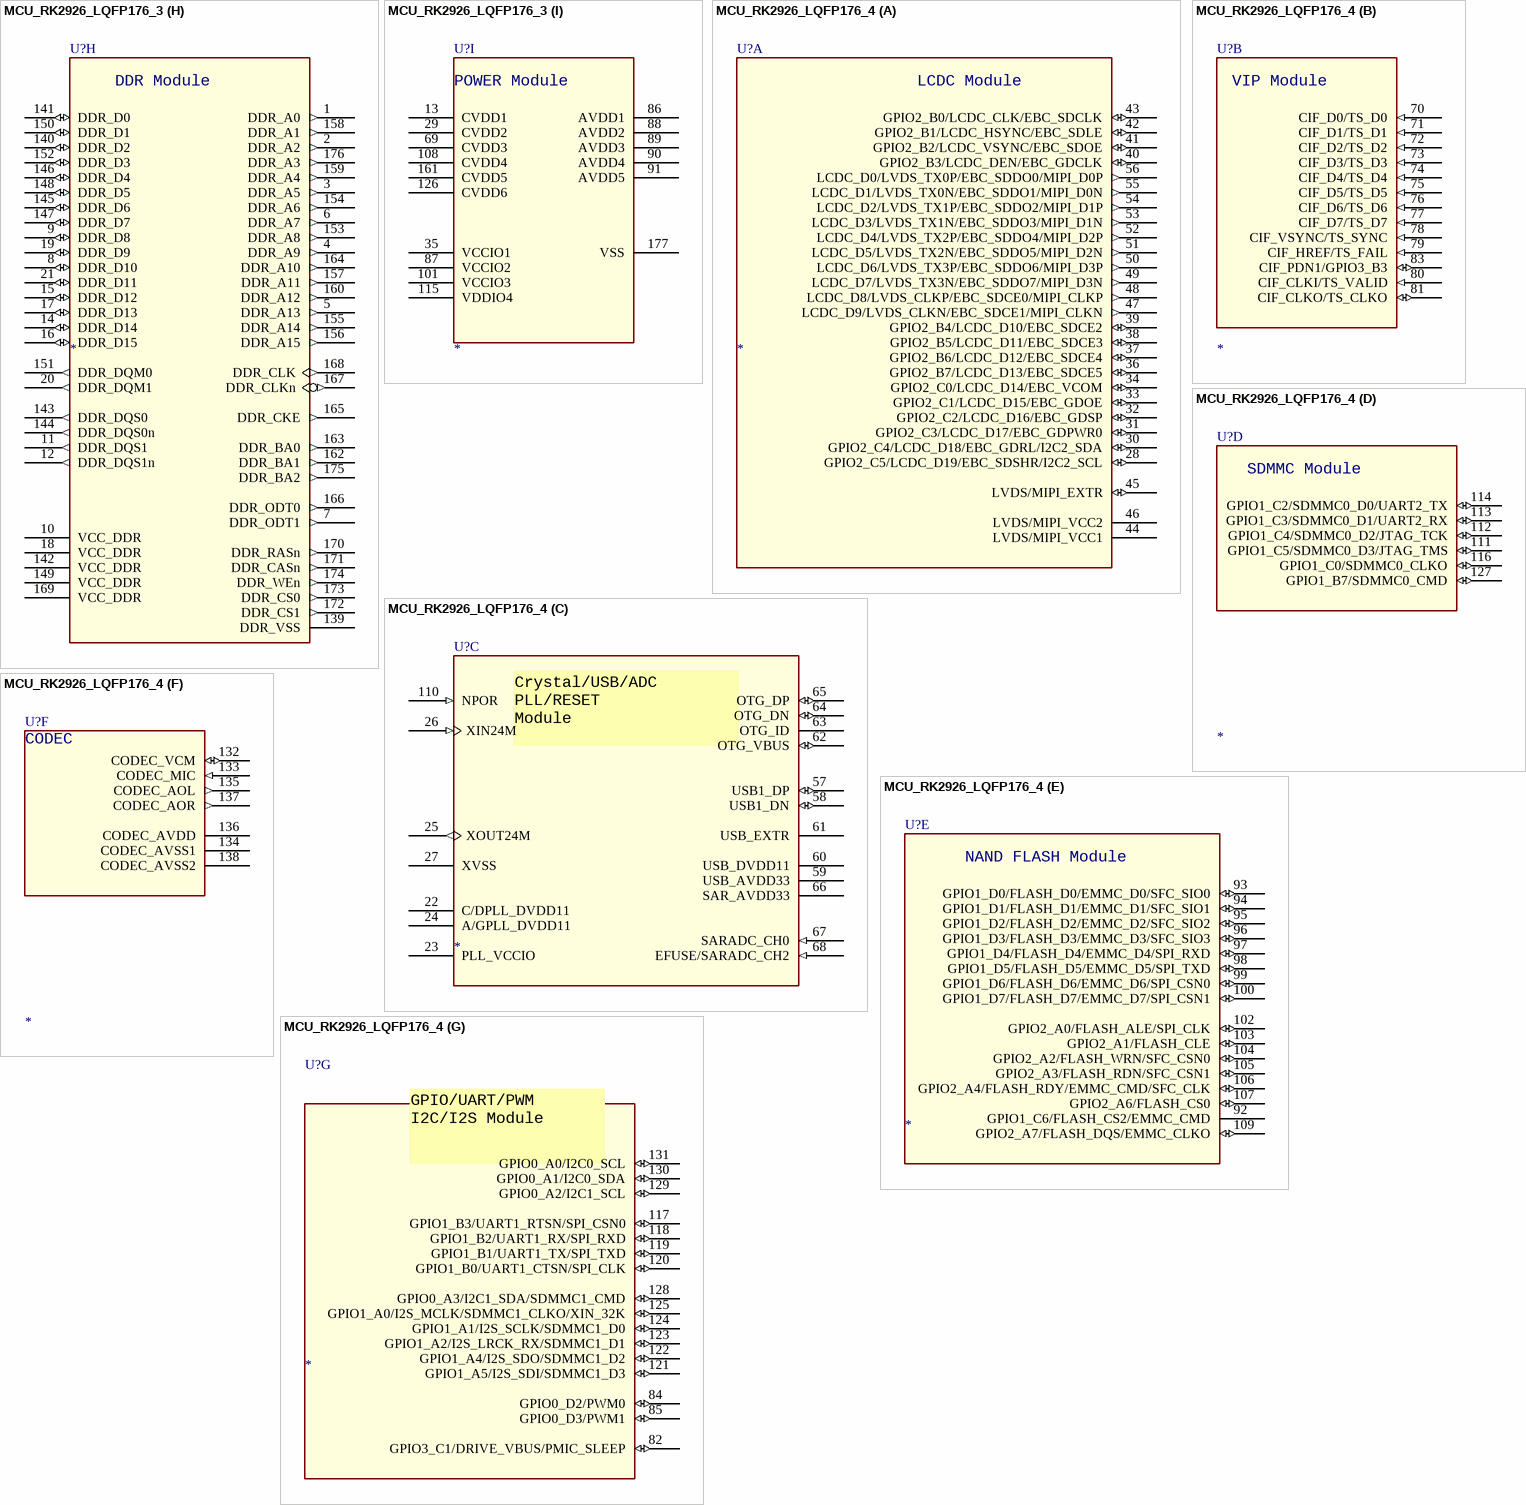
[diagram p7: symbols MCU_RK2926_LQFP176_3 to MCU_RK2926_LQFP176_4]

## MCU_RK2926_LQFP176_3
designator U?
footprint LQFP176_16X16
part A pins: 28 GPIO2_C5/LCDC_D19/EBC_SDSHR/I2C2_SCL (io), 30 GPIO2_C4/LCDC_D18/EBC_GDRL/I2C2_SDA (io), 31 GPIO2_C3/LCDC_D17/EBC_GDPWR0 (io), 32 GPIO2_C2/LCDC_D16/EBC_GDSP (io), 33 GPIO2_C1/LCDC_D15/EBC_GDOE (io), 34 GPIO2_C0/LCDC_D14/EBC_VCOM (io), 36 GPIO2_B7/LCDC_D13/EBC_SDCE5 (io), 37 GPIO2_B6/LCDC_D12/EBC_SDCE4 (io), 38 GPIO2_B5/LCDC_D11/EBC_SDCE3 (io), 39 GPIO2_B4/LCDC_D10/EBC_SDCE2 (io), 40 GPIO2_B3/LCDC_DEN/EBC_GDCLK (io), 41 GPIO2_B2/LCDC_VSYNC/EBC_SDOE (io), 42 GPIO2_B1/LCDC_HSYNC/EBC_SDLE (io), 43 GPIO2_B0/LCDC_CLK/EBC_SDCLK (io), 44 LVDS/MIPI_VCC1 (power), 45 LVDS/MIPI_EXTR (io), 46 LVDS/MIPI_VCC2 (power), 47 LCDC_D9/LVDS_CLKN/EBC_SDCE1/MIPI_CLKN (out), 48 LCDC_D8/LVDS_CLKP/EBC_SDCE0/MIPI_CLKP (out), 49 LCDC_D7/LVDS_TX3N/EBC_SDDO7/MIPI_D3N (out), 50 LCDC_D6/LVDS_TX3P/EBC_SDDO6/MIPI_D3P (out), 51 LCDC_D5/LVDS_TX2N/EBC_SDDO5/MIPI_D2N (out), 52 LCDC_D4/LVDS_TX2P/EBC_SDDO4/MIPI_D2P (out), 53 LCDC_D3/LVDS_TX1N/EBC_SDDO3/MIPI_D1N (out), 54 LCDC_D2/LVDS_TX1P/EBC_SDDO2/MIPI_D1P (out), 55 LCDC_D1/LVDS_TX0N/EBC_SDDO1/MIPI_D0N (out), 56 LCDC_D0/LVDS_TX0P/EBC_SDDO0/MIPI_D0P (out)
part B pins: 70 CIF_D0/TS_D0 (in), 71 CIF_D1/TS_D1 (in), 72 CIF_D2/TS_D2 (in), 73 CIF_D3/TS_D3 (in), 74 CIF_D4/TS_D4 (in), 75 CIF_D5/TS_D5 (in), 76 CIF_D6/TS_D6 (in), 77 CIF_D7/TS_D7 (in), 78 CIF_VSYNC/TS_SYNC (in), 79 CIF_HREF/TS_FAIL (in), 80 CIF_CLKI/TS_VALID (in), 81 CIF_CLKO/TS_CLKO (io), 83 CIF_PDN1/GPIO3_B3 (io)
part C pins: 22 C/DPLL_DVDD11 (power), 23 PLL_VCCIO (power), 24 A/GPLL_DVDD11 (power), 25 XOUT24M (out), 26 XIN24M (in), 27 XVSS (power), 57 USB1_DP (io), 58 USB1_DN (io), 59 USB_AVDD33 (power), 60 USB_DVDD11 (power), 61 USB_EXTR (power), 62 OTG_VBUS (io), 63 OTG_ID, 64 OTG_DN (io), 65 OTG_DP (io), 66 SAR_AVDD33 (power), 67 SARADC_CH0 (in), 68 EFUSE/SARADC_CH2 (in), 82 GPIO3_C1/DRIVE_VBUS/PMIC_SLEEP (io), 110 NPOR (in)
part D pins: 111 GPIO1_C5/SDMMC0_D3/JTAG_TMS (io), 112 GPIO1_C4/SDMMC0_D2/JTAG_TCK (io), 113 GPIO1_C3/SDMMC0_D1/UART2_RX (io), 114 GPIO1_C2/SDMMC0_D0/UART2_TX (io), 116 GPIO1_C0/SDMMC0_CLKO (io), 127 GPIO1_B7/SDMMC0_CMD (io)
part E pins: 92 GPIO1_C6/FLASH_CS2/EMMC_CMD, 93 GPIO1_D0/FLASH_D0/EMMC_D0/SFC_SIO0 (io), 94 GPIO1_D1/FLASH_D1/EMMC_D1/SFC_SIO1 (io), 95 GPIO1_D2/FLASH_D2/EMMC_D2/SFC_SIO2 (io), 96 GPIO1_D3/FLASH_D3/EMMC_D3/SFC_SIO3 (io), 97 GPIO1_D4/FLASH_D4/EMMC_D4/SPI_RXD (io), 98 GPIO1_D5/FLASH_D5/EMMC_D5/SPI_TXD (io), 99 GPIO1_D6/FLASH_D6/EMMC_D6/SPI_CSN0 (io), 100 GPIO1_D7/FLASH_D7/EMMC_D7/SPI_CSN1 (io), 102 GPIO2_A0/FLASH_ALE/SPI_CLK (io), 103 GPIO2_A1/FLASH_CLE (io), 104 GPIO2_A2/FLASH_WRN/SFC_CSN0 (io), 105 GPIO2_A3/FLASH_RDN/SFC_CSN1 (io), 106 GPIO2_A4/FLASH_RDY/EMMC_CMD/SFC_CLK (io), 107 GPIO2_A6/FLASH_CS0 (io), 109 GPIO2_A7/FLASH_DQS/EMMC_CLKO (io)
part F pins: 132 CODEC_VCM (io), 133 CODEC_MIC (in), 134 CODEC_AVSS1, 135 CODEC_AOL (out), 136 CODEC_AVDD (power), 137 CODEC_AOR (out), 138 CODEC_AVSS2
part G pins: 84 GPIO0_D2/PWM0 (io), 85 GPIO0_D3/PWM1 (io), 117 GPIO1_B3/UART1_RTSN/SPI_CSN0 (io), 118 GPIO1_B2/UART1_RX/SPI_RXD (io), 119 GPIO1_B1/UART1_TX/SPI_TXD (io), 120 GPIO1_B0/UART1_CTSN/SPI_CLK (io), 121 GPIO1_A5/I2S_SDI/SDMMC1_D3 (io), 122 GPIO1_A4/I2S_SDO/SDMMC1_D2 (io), 123 GPIO1_A2/I2S_LRCK_RX/SDMMC1_D1 (io), 124 GPIO1_A1/I2S_SCLK/SDMMC1_D0 (io), 125 GPIO1_A0/I2S_MCLK/SDMMC1_CLKO/XIN_32K (io), 128 GPIO0_A3/I2C1_SDA/SDMMC1_CMD (io), 129 GPIO0_A2/I2C1_SCL (io), 130 GPIO0_A1/I2C0_SDA (io), 131 GPIO0_A0/I2C0_SCL (io)
part H pins: 1 DDR_A0 (out), 2 DDR_A2 (out), 3 DDR_A5 (out), 4 DDR_A9 (out), 5 DDR_A13 (out), 6 DDR_A7 (out), 7 DDR_ODT1 (out), 8 DDR_D10 (io), 9 DDR_D8 (io), 10 VCC_DDR (power), 11 DDR_DQS1 (out), 12 DDR_DQS1n (out), 14 DDR_D14 (io), 15 DDR_D12 (io), 16 DDR_D15 (io), 17 DDR_D13 (io), 18 VCC_DDR (power), 19 DDR_D9 (io), 20 DDR_DQM1 (out), 21 DDR_D11 (io), 139 DDR_VSS, 140 DDR_D2 (io), 141 DDR_D0 (io), 142 VCC_DDR (power), 143 DDR_DQS0 (out), 144 DDR_DQS0n (out), 145 DDR_D6 (io), 146 DDR_D4 (io), 147 DDR_D7 (io), 148 DDR_D5 (io), 149 VCC_DDR (power), 150 DDR_D1 (io), 151 DDR_DQM0 (out), 152 DDR_D3 (io), 153 DDR_A8 (out), 154 DDR_A6 (out), 155 DDR_A14 (out), 156 DDR_A15 (out), 157 DDR_A11 (out), 158 DDR_A1 (out), 159 DDR_A4 (out), 160 DDR_A12 (out), 162 DDR_BA1 (out), 163 DDR_BA0 (out), 164 DDR_A10 (out), 165 DDR_CKE (out), 166 DDR_ODT0 (out), 167 DDR_CLKn (out), 168 DDR_CLK (out), 169 VCC_DDR (power), 170 DDR_RASn (out), 171 DDR_CASn (out), 172 DDR_CS1 (out), 173 DDR_CS0 (out), 174 DDR_WEn (out), 175 DDR_BA2 (out), 176 DDR_A3 (out)
part I pins: 13 CVDD1 (power), 29 CVDD2 (power), 35 VCCIO1 (power), 69 CVDD3 (power), 86 AVDD1 (power), 87 VCCIO2 (power), 88 AVDD2 (power), 89 AVDD3 (power), 90 AVDD4 (power), 91 AVDD5 (power), 101 VCCIO3 (power), 108 CVDD4 (power), 115 VDDIO4 (power), 126 CVDD6 (power), 161 CVDD5 (power), 177 VSS (power)
part A text: LCDC Module
part B text: VIP Module
part C text: Crystal/USB/ADC / PLL/RESET / Module
part D text: SDMMC Module
part E text: NAND FLASH Module
part F text: CODEC
part G text: GPIO/UART/PWM / I2C/I2S Module
part H text: DDR Module
part I text: POWER Module

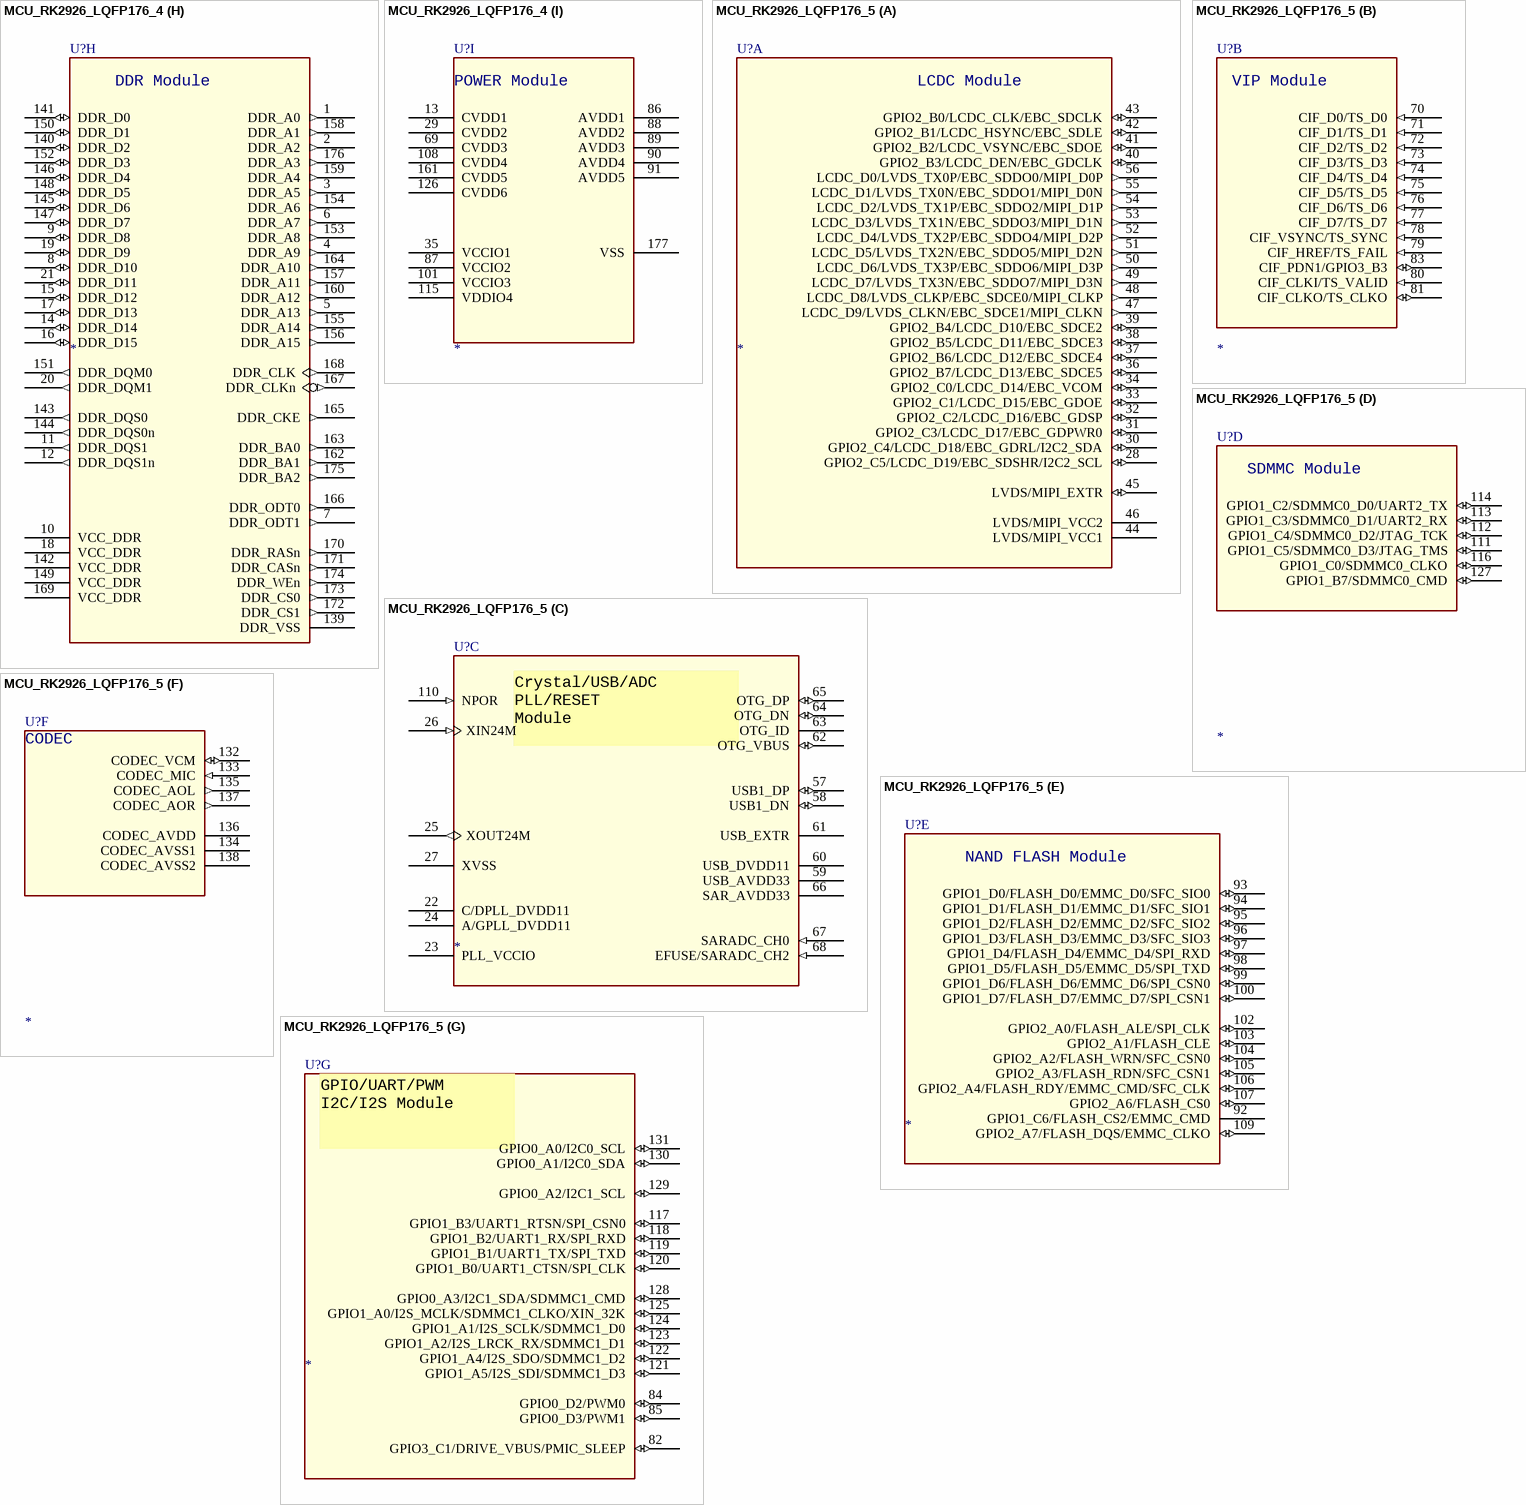
[diagram p8: symbols MCU_RK2926_LQFP176_4 to MCU_RK2926_LQFP176_5]

## MCU_RK2926_LQFP176_4
designator U?
footprint LQFP176_16X16
part A pins: 28 GPIO2_C5/LCDC_D19/EBC_SDSHR/I2C2_SCL (io), 30 GPIO2_C4/LCDC_D18/EBC_GDRL/I2C2_SDA (io), 31 GPIO2_C3/LCDC_D17/EBC_GDPWR0 (io), 32 GPIO2_C2/LCDC_D16/EBC_GDSP (io), 33 GPIO2_C1/LCDC_D15/EBC_GDOE (io), 34 GPIO2_C0/LCDC_D14/EBC_VCOM (io), 36 GPIO2_B7/LCDC_D13/EBC_SDCE5 (io), 37 GPIO2_B6/LCDC_D12/EBC_SDCE4 (io), 38 GPIO2_B5/LCDC_D11/EBC_SDCE3 (io), 39 GPIO2_B4/LCDC_D10/EBC_SDCE2 (io), 40 GPIO2_B3/LCDC_DEN/EBC_GDCLK (io), 41 GPIO2_B2/LCDC_VSYNC/EBC_SDOE (io), 42 GPIO2_B1/LCDC_HSYNC/EBC_SDLE (io), 43 GPIO2_B0/LCDC_CLK/EBC_SDCLK (io), 44 LVDS/MIPI_VCC1 (power), 45 LVDS/MIPI_EXTR (io), 46 LVDS/MIPI_VCC2 (power), 47 LCDC_D9/LVDS_CLKN/EBC_SDCE1/MIPI_CLKN (out), 48 LCDC_D8/LVDS_CLKP/EBC_SDCE0/MIPI_CLKP (out), 49 LCDC_D7/LVDS_TX3N/EBC_SDDO7/MIPI_D3N (out), 50 LCDC_D6/LVDS_TX3P/EBC_SDDO6/MIPI_D3P (out), 51 LCDC_D5/LVDS_TX2N/EBC_SDDO5/MIPI_D2N (out), 52 LCDC_D4/LVDS_TX2P/EBC_SDDO4/MIPI_D2P (out), 53 LCDC_D3/LVDS_TX1N/EBC_SDDO3/MIPI_D1N (out), 54 LCDC_D2/LVDS_TX1P/EBC_SDDO2/MIPI_D1P (out), 55 LCDC_D1/LVDS_TX0N/EBC_SDDO1/MIPI_D0N (out), 56 LCDC_D0/LVDS_TX0P/EBC_SDDO0/MIPI_D0P (out)
part B pins: 70 CIF_D0/TS_D0 (in), 71 CIF_D1/TS_D1 (in), 72 CIF_D2/TS_D2 (in), 73 CIF_D3/TS_D3 (in), 74 CIF_D4/TS_D4 (in), 75 CIF_D5/TS_D5 (in), 76 CIF_D6/TS_D6 (in), 77 CIF_D7/TS_D7 (in), 78 CIF_VSYNC/TS_SYNC (in), 79 CIF_HREF/TS_FAIL (in), 80 CIF_CLKI/TS_VALID (in), 81 CIF_CLKO/TS_CLKO (io), 83 CIF_PDN1/GPIO3_B3 (io)
part C pins: 22 C/DPLL_DVDD11 (power), 23 PLL_VCCIO (power), 24 A/GPLL_DVDD11 (power), 25 XOUT24M (out), 26 XIN24M (in), 27 XVSS (power), 57 USB1_DP (io), 58 USB1_DN (io), 59 USB_AVDD33 (power), 60 USB_DVDD11 (power), 61 USB_EXTR (power), 62 OTG_VBUS (io), 63 OTG_ID, 64 OTG_DN (io), 65 OTG_DP (io), 66 SAR_AVDD33 (power), 67 SARADC_CH0 (in), 68 EFUSE/SARADC_CH2 (in), 110 NPOR (in)
part D pins: 111 GPIO1_C5/SDMMC0_D3/JTAG_TMS (io), 112 GPIO1_C4/SDMMC0_D2/JTAG_TCK (io), 113 GPIO1_C3/SDMMC0_D1/UART2_RX (io), 114 GPIO1_C2/SDMMC0_D0/UART2_TX (io), 116 GPIO1_C0/SDMMC0_CLKO (io), 127 GPIO1_B7/SDMMC0_CMD (io)
part E pins: 92 GPIO1_C6/FLASH_CS2/EMMC_CMD, 93 GPIO1_D0/FLASH_D0/EMMC_D0/SFC_SIO0 (io), 94 GPIO1_D1/FLASH_D1/EMMC_D1/SFC_SIO1 (io), 95 GPIO1_D2/FLASH_D2/EMMC_D2/SFC_SIO2 (io), 96 GPIO1_D3/FLASH_D3/EMMC_D3/SFC_SIO3 (io), 97 GPIO1_D4/FLASH_D4/EMMC_D4/SPI_RXD (io), 98 GPIO1_D5/FLASH_D5/EMMC_D5/SPI_TXD (io), 99 GPIO1_D6/FLASH_D6/EMMC_D6/SPI_CSN0 (io), 100 GPIO1_D7/FLASH_D7/EMMC_D7/SPI_CSN1 (io), 102 GPIO2_A0/FLASH_ALE/SPI_CLK (io), 103 GPIO2_A1/FLASH_CLE (io), 104 GPIO2_A2/FLASH_WRN/SFC_CSN0 (io), 105 GPIO2_A3/FLASH_RDN/SFC_CSN1 (io), 106 GPIO2_A4/FLASH_RDY/EMMC_CMD/SFC_CLK (io), 107 GPIO2_A6/FLASH_CS0 (io), 109 GPIO2_A7/FLASH_DQS/EMMC_CLKO (io)
part F pins: 132 CODEC_VCM (io), 133 CODEC_MIC (in), 134 CODEC_AVSS1, 135 CODEC_AOL (out), 136 CODEC_AVDD (power), 137 CODEC_AOR (out), 138 CODEC_AVSS2
part G pins: 82 GPIO3_C1/DRIVE_VBUS/PMIC_SLEEP (io), 84 GPIO0_D2/PWM0 (io), 85 GPIO0_D3/PWM1 (io), 117 GPIO1_B3/UART1_RTSN/SPI_CSN0 (io), 118 GPIO1_B2/UART1_RX/SPI_RXD (io), 119 GPIO1_B1/UART1_TX/SPI_TXD (io), 120 GPIO1_B0/UART1_CTSN/SPI_CLK (io), 121 GPIO1_A5/I2S_SDI/SDMMC1_D3 (io), 122 GPIO1_A4/I2S_SDO/SDMMC1_D2 (io), 123 GPIO1_A2/I2S_LRCK_RX/SDMMC1_D1 (io), 124 GPIO1_A1/I2S_SCLK/SDMMC1_D0 (io), 125 GPIO1_A0/I2S_MCLK/SDMMC1_CLKO/XIN_32K (io), 128 GPIO0_A3/I2C1_SDA/SDMMC1_CMD (io), 129 GPIO0_A2/I2C1_SCL (io), 130 GPIO0_A1/I2C0_SDA (io), 131 GPIO0_A0/I2C0_SCL (io)
part H pins: 1 DDR_A0 (out), 2 DDR_A2 (out), 3 DDR_A5 (out), 4 DDR_A9 (out), 5 DDR_A13 (out), 6 DDR_A7 (out), 7 DDR_ODT1 (out), 8 DDR_D10 (io), 9 DDR_D8 (io), 10 VCC_DDR (power), 11 DDR_DQS1 (out), 12 DDR_DQS1n (out), 14 DDR_D14 (io), 15 DDR_D12 (io), 16 DDR_D15 (io), 17 DDR_D13 (io), 18 VCC_DDR (power), 19 DDR_D9 (io), 20 DDR_DQM1 (out), 21 DDR_D11 (io), 139 DDR_VSS, 140 DDR_D2 (io), 141 DDR_D0 (io), 142 VCC_DDR (power), 143 DDR_DQS0 (out), 144 DDR_DQS0n (out), 145 DDR_D6 (io), 146 DDR_D4 (io), 147 DDR_D7 (io), 148 DDR_D5 (io), 149 VCC_DDR (power), 150 DDR_D1 (io), 151 DDR_DQM0 (out), 152 DDR_D3 (io), 153 DDR_A8 (out), 154 DDR_A6 (out), 155 DDR_A14 (out), 156 DDR_A15 (out), 157 DDR_A11 (out), 158 DDR_A1 (out), 159 DDR_A4 (out), 160 DDR_A12 (out), 162 DDR_BA1 (out), 163 DDR_BA0 (out), 164 DDR_A10 (out), 165 DDR_CKE (out), 166 DDR_ODT0 (out), 167 DDR_CLKn (out), 168 DDR_CLK (out), 169 VCC_DDR (power), 170 DDR_RASn (out), 171 DDR_CASn (out), 172 DDR_CS1 (out), 173 DDR_CS0 (out), 174 DDR_WEn (out), 175 DDR_BA2 (out), 176 DDR_A3 (out)
part I pins: 13 CVDD1 (power), 29 CVDD2 (power), 35 VCCIO1 (power), 69 CVDD3 (power), 86 AVDD1 (power), 87 VCCIO2 (power), 88 AVDD2 (power), 89 AVDD3 (power), 90 AVDD4 (power), 91 AVDD5 (power), 101 VCCIO3 (power), 108 CVDD4 (power), 115 VDDIO4 (power), 126 CVDD6 (power), 161 CVDD5 (power), 177 VSS (power)
part A text: LCDC Module
part B text: VIP Module
part C text: Crystal/USB/ADC / PLL/RESET / Module
part D text: SDMMC Module
part E text: NAND FLASH Module
part F text: CODEC
part G text: GPIO/UART/PWM / I2C/I2S Module
part H text: DDR Module
part I text: POWER Module

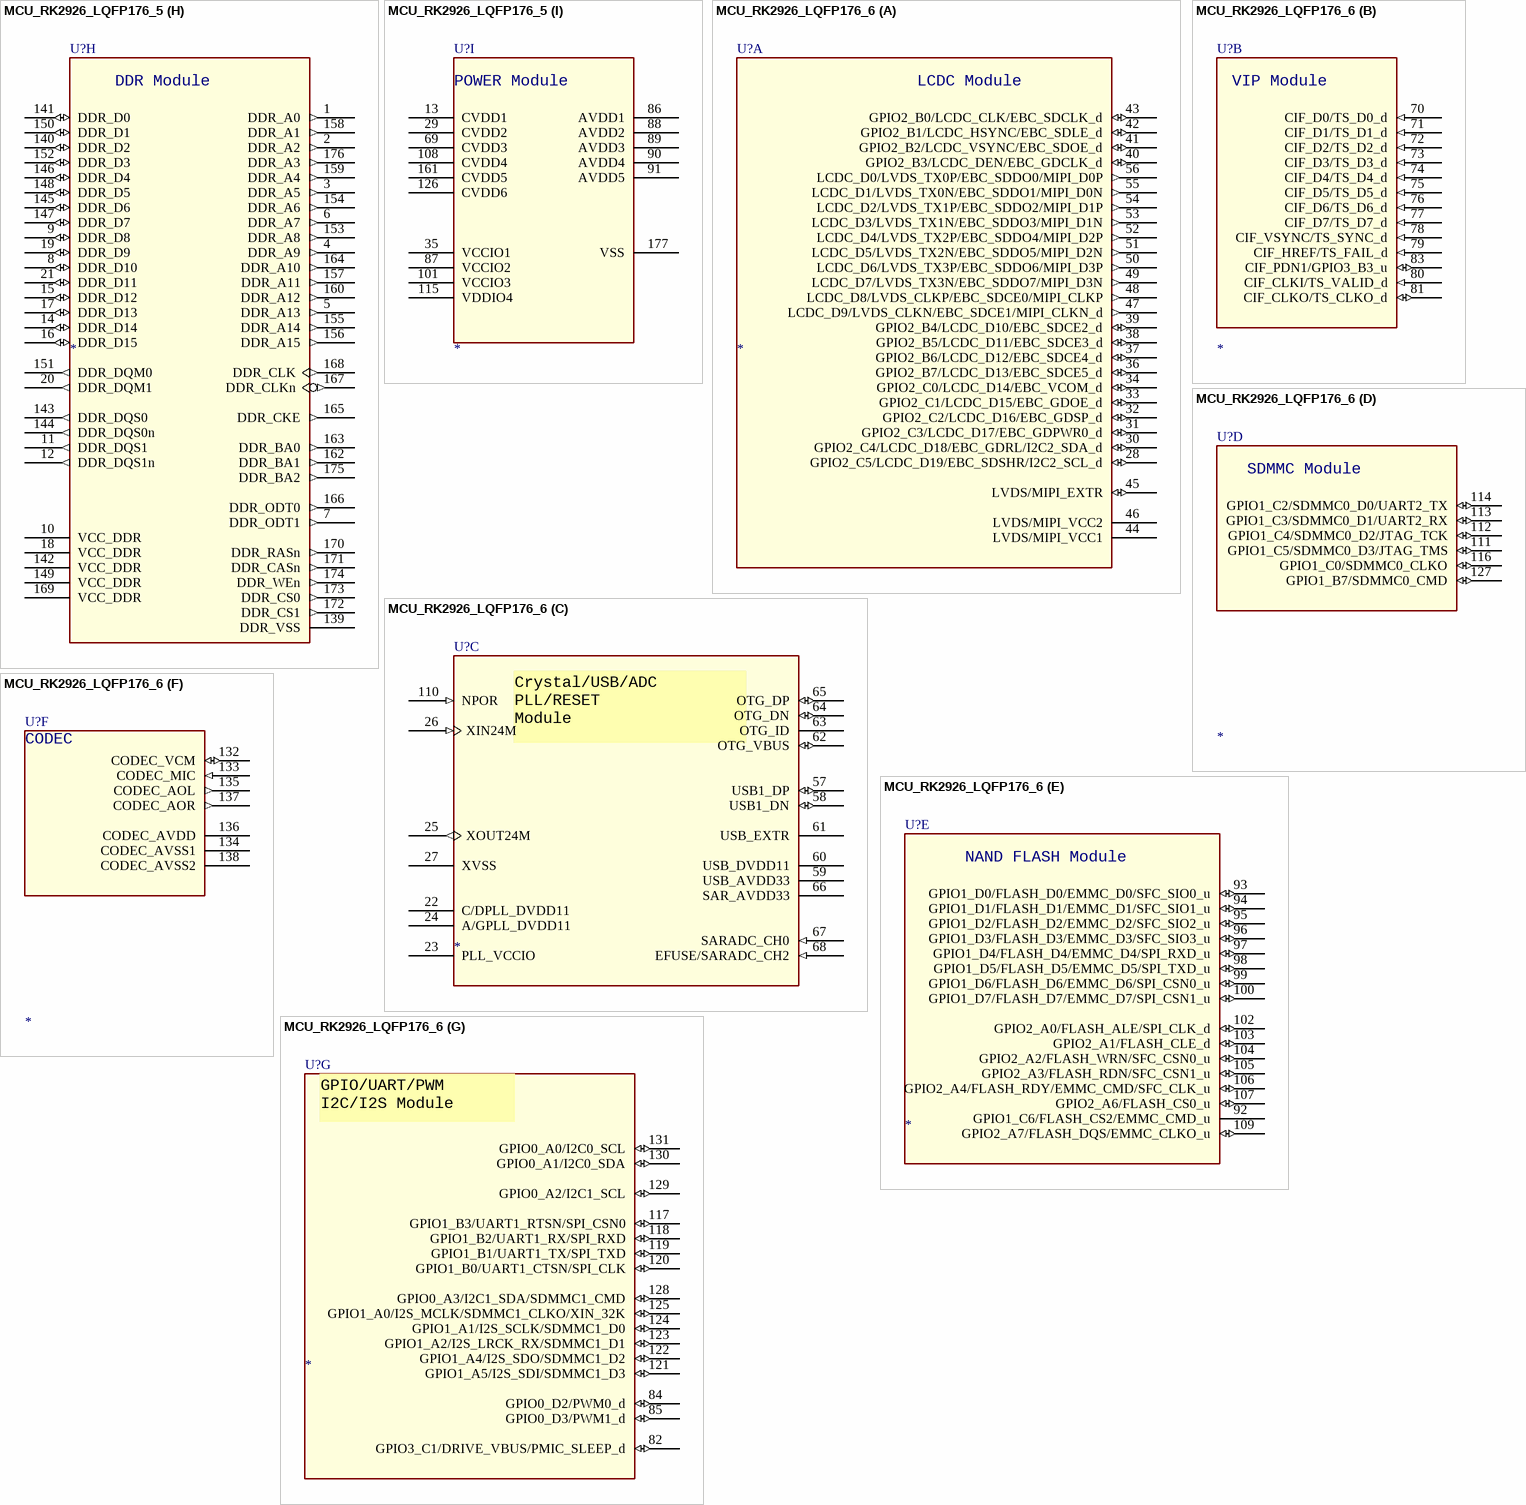
[diagram p9: symbols MCU_RK2926_LQFP176_5 to MCU_RK2926_LQFP176_6]

## MCU_RK2926_LQFP176_5
designator U?
footprint LQFP176_16X16
part A pins: 28 GPIO2_C5/LCDC_D19/EBC_SDSHR/I2C2_SCL (io), 30 GPIO2_C4/LCDC_D18/EBC_GDRL/I2C2_SDA (io), 31 GPIO2_C3/LCDC_D17/EBC_GDPWR0 (io), 32 GPIO2_C2/LCDC_D16/EBC_GDSP (io), 33 GPIO2_C1/LCDC_D15/EBC_GDOE (io), 34 GPIO2_C0/LCDC_D14/EBC_VCOM (io), 36 GPIO2_B7/LCDC_D13/EBC_SDCE5 (io), 37 GPIO2_B6/LCDC_D12/EBC_SDCE4 (io), 38 GPIO2_B5/LCDC_D11/EBC_SDCE3 (io), 39 GPIO2_B4/LCDC_D10/EBC_SDCE2 (io), 40 GPIO2_B3/LCDC_DEN/EBC_GDCLK (io), 41 GPIO2_B2/LCDC_VSYNC/EBC_SDOE (io), 42 GPIO2_B1/LCDC_HSYNC/EBC_SDLE (io), 43 GPIO2_B0/LCDC_CLK/EBC_SDCLK (io), 44 LVDS/MIPI_VCC1 (power), 45 LVDS/MIPI_EXTR (io), 46 LVDS/MIPI_VCC2 (power), 47 LCDC_D9/LVDS_CLKN/EBC_SDCE1/MIPI_CLKN (out), 48 LCDC_D8/LVDS_CLKP/EBC_SDCE0/MIPI_CLKP (out), 49 LCDC_D7/LVDS_TX3N/EBC_SDDO7/MIPI_D3N (out), 50 LCDC_D6/LVDS_TX3P/EBC_SDDO6/MIPI_D3P (out), 51 LCDC_D5/LVDS_TX2N/EBC_SDDO5/MIPI_D2N (out), 52 LCDC_D4/LVDS_TX2P/EBC_SDDO4/MIPI_D2P (out), 53 LCDC_D3/LVDS_TX1N/EBC_SDDO3/MIPI_D1N (out), 54 LCDC_D2/LVDS_TX1P/EBC_SDDO2/MIPI_D1P (out), 55 LCDC_D1/LVDS_TX0N/EBC_SDDO1/MIPI_D0N (out), 56 LCDC_D0/LVDS_TX0P/EBC_SDDO0/MIPI_D0P (out)
part B pins: 70 CIF_D0/TS_D0 (in), 71 CIF_D1/TS_D1 (in), 72 CIF_D2/TS_D2 (in), 73 CIF_D3/TS_D3 (in), 74 CIF_D4/TS_D4 (in), 75 CIF_D5/TS_D5 (in), 76 CIF_D6/TS_D6 (in), 77 CIF_D7/TS_D7 (in), 78 CIF_VSYNC/TS_SYNC (in), 79 CIF_HREF/TS_FAIL (in), 80 CIF_CLKI/TS_VALID (in), 81 CIF_CLKO/TS_CLKO (io), 83 CIF_PDN1/GPIO3_B3 (io)
part C pins: 22 C/DPLL_DVDD11 (power), 23 PLL_VCCIO (power), 24 A/GPLL_DVDD11 (power), 25 XOUT24M (out), 26 XIN24M (in), 27 XVSS (power), 57 USB1_DP (io), 58 USB1_DN (io), 59 USB_AVDD33 (power), 60 USB_DVDD11 (power), 61 USB_EXTR (power), 62 OTG_VBUS (io), 63 OTG_ID, 64 OTG_DN (io), 65 OTG_DP (io), 66 SAR_AVDD33 (power), 67 SARADC_CH0 (in), 68 EFUSE/SARADC_CH2 (in), 110 NPOR (in)
part D pins: 111 GPIO1_C5/SDMMC0_D3/JTAG_TMS (io), 112 GPIO1_C4/SDMMC0_D2/JTAG_TCK (io), 113 GPIO1_C3/SDMMC0_D1/UART2_RX (io), 114 GPIO1_C2/SDMMC0_D0/UART2_TX (io), 116 GPIO1_C0/SDMMC0_CLKO (io), 127 GPIO1_B7/SDMMC0_CMD (io)
part E pins: 92 GPIO1_C6/FLASH_CS2/EMMC_CMD, 93 GPIO1_D0/FLASH_D0/EMMC_D0/SFC_SIO0 (io), 94 GPIO1_D1/FLASH_D1/EMMC_D1/SFC_SIO1 (io), 95 GPIO1_D2/FLASH_D2/EMMC_D2/SFC_SIO2 (io), 96 GPIO1_D3/FLASH_D3/EMMC_D3/SFC_SIO3 (io), 97 GPIO1_D4/FLASH_D4/EMMC_D4/SPI_RXD (io), 98 GPIO1_D5/FLASH_D5/EMMC_D5/SPI_TXD (io), 99 GPIO1_D6/FLASH_D6/EMMC_D6/SPI_CSN0 (io), 100 GPIO1_D7/FLASH_D7/EMMC_D7/SPI_CSN1 (io), 102 GPIO2_A0/FLASH_ALE/SPI_CLK (io), 103 GPIO2_A1/FLASH_CLE (io), 104 GPIO2_A2/FLASH_WRN/SFC_CSN0 (io), 105 GPIO2_A3/FLASH_RDN/SFC_CSN1 (io), 106 GPIO2_A4/FLASH_RDY/EMMC_CMD/SFC_CLK (io), 107 GPIO2_A6/FLASH_CS0 (io), 109 GPIO2_A7/FLASH_DQS/EMMC_CLKO (io)
part F pins: 132 CODEC_VCM (io), 133 CODEC_MIC (in), 134 CODEC_AVSS1, 135 CODEC_AOL (out), 136 CODEC_AVDD (power), 137 CODEC_AOR (out), 138 CODEC_AVSS2
part G pins: 82 GPIO3_C1/DRIVE_VBUS/PMIC_SLEEP (io), 84 GPIO0_D2/PWM0 (io), 85 GPIO0_D3/PWM1 (io), 117 GPIO1_B3/UART1_RTSN/SPI_CSN0 (io), 118 GPIO1_B2/UART1_RX/SPI_RXD (io), 119 GPIO1_B1/UART1_TX/SPI_TXD (io), 120 GPIO1_B0/UART1_CTSN/SPI_CLK (io), 121 GPIO1_A5/I2S_SDI/SDMMC1_D3 (io), 122 GPIO1_A4/I2S_SDO/SDMMC1_D2 (io), 123 GPIO1_A2/I2S_LRCK_RX/SDMMC1_D1 (io), 124 GPIO1_A1/I2S_SCLK/SDMMC1_D0 (io), 125 GPIO1_A0/I2S_MCLK/SDMMC1_CLKO/XIN_32K (io), 128 GPIO0_A3/I2C1_SDA/SDMMC1_CMD (io), 129 GPIO0_A2/I2C1_SCL (io), 130 GPIO0_A1/I2C0_SDA (io), 131 GPIO0_A0/I2C0_SCL (io)
part H pins: 1 DDR_A0 (out), 2 DDR_A2 (out), 3 DDR_A5 (out), 4 DDR_A9 (out), 5 DDR_A13 (out), 6 DDR_A7 (out), 7 DDR_ODT1 (out), 8 DDR_D10 (io), 9 DDR_D8 (io), 10 VCC_DDR (power), 11 DDR_DQS1 (out), 12 DDR_DQS1n (out), 14 DDR_D14 (io), 15 DDR_D12 (io), 16 DDR_D15 (io), 17 DDR_D13 (io), 18 VCC_DDR (power), 19 DDR_D9 (io), 20 DDR_DQM1 (out), 21 DDR_D11 (io), 139 DDR_VSS, 140 DDR_D2 (io), 141 DDR_D0 (io), 142 VCC_DDR (power), 143 DDR_DQS0 (out), 144 DDR_DQS0n (out), 145 DDR_D6 (io), 146 DDR_D4 (io), 147 DDR_D7 (io), 148 DDR_D5 (io), 149 VCC_DDR (power), 150 DDR_D1 (io), 151 DDR_DQM0 (out), 152 DDR_D3 (io), 153 DDR_A8 (out), 154 DDR_A6 (out), 155 DDR_A14 (out), 156 DDR_A15 (out), 157 DDR_A11 (out), 158 DDR_A1 (out), 159 DDR_A4 (out), 160 DDR_A12 (out), 162 DDR_BA1 (out), 163 DDR_BA0 (out), 164 DDR_A10 (out), 165 DDR_CKE (out), 166 DDR_ODT0 (out), 167 DDR_CLKn (out), 168 DDR_CLK (out), 169 VCC_DDR (power), 170 DDR_RASn (out), 171 DDR_CASn (out), 172 DDR_CS1 (out), 173 DDR_CS0 (out), 174 DDR_WEn (out), 175 DDR_BA2 (out), 176 DDR_A3 (out)
part I pins: 13 CVDD1 (power), 29 CVDD2 (power), 35 VCCIO1 (power), 69 CVDD3 (power), 86 AVDD1 (power), 87 VCCIO2 (power), 88 AVDD2 (power), 89 AVDD3 (power), 90 AVDD4 (power), 91 AVDD5 (power), 101 VCCIO3 (power), 108 CVDD4 (power), 115 VDDIO4 (power), 126 CVDD6 (power), 161 CVDD5 (power), 177 VSS (power)
part A text: LCDC Module
part B text: VIP Module
part C text: Crystal/USB/ADC / PLL/RESET / Module
part D text: SDMMC Module
part E text: NAND FLASH Module
part F text: CODEC
part G text: GPIO/UART/PWM / I2C/I2S Module
part H text: DDR Module
part I text: POWER Module

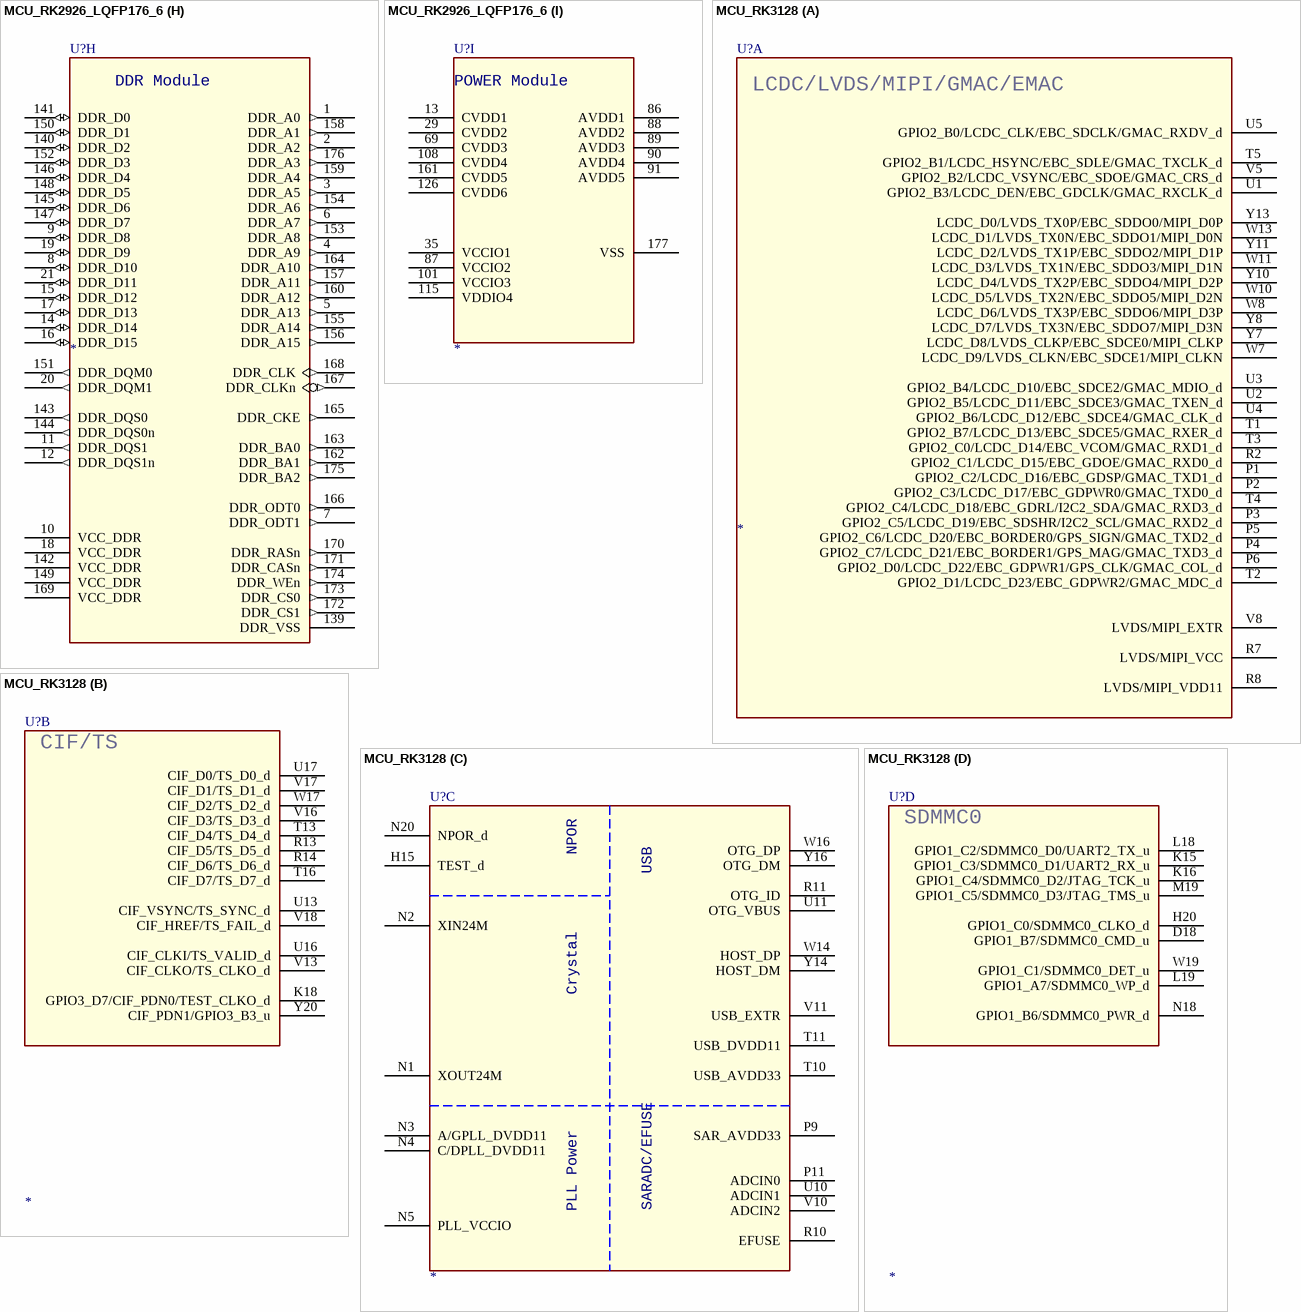
[diagram p10: symbols MCU_RK2926_LQFP176_6 to MCU_RK3128]

## MCU_RK2926_LQFP176_6
designator U?
footprint LQFP176_16X16
part A pins: 28 GPIO2_C5/LCDC_D19/EBC_SDSHR/I2C2_SCL_d (io), 30 GPIO2_C4/LCDC_D18/EBC_GDRL/I2C2_SDA_d (io), 31 GPIO2_C3/LCDC_D17/EBC_GDPWR0_d (io), 32 GPIO2_C2/LCDC_D16/EBC_GDSP_d (io), 33 GPIO2_C1/LCDC_D15/EBC_GDOE_d (io), 34 GPIO2_C0/LCDC_D14/EBC_VCOM_d (io), 36 GPIO2_B7/LCDC_D13/EBC_SDCE5_d (io), 37 GPIO2_B6/LCDC_D12/EBC_SDCE4_d (io), 38 GPIO2_B5/LCDC_D11/EBC_SDCE3_d (io), 39 GPIO2_B4/LCDC_D10/EBC_SDCE2_d (io), 40 GPIO2_B3/LCDC_DEN/EBC_GDCLK_d (io), 41 GPIO2_B2/LCDC_VSYNC/EBC_SDOE_d (io), 42 GPIO2_B1/LCDC_HSYNC/EBC_SDLE_d (io), 43 GPIO2_B0/LCDC_CLK/EBC_SDCLK_d (io), 44 LVDS/MIPI_VCC1 (power), 45 LVDS/MIPI_EXTR (io), 46 LVDS/MIPI_VCC2 (power), 47 LCDC_D9/LVDS_CLKN/EBC_SDCE1/MIPI_CLKN_d (out), 48 LCDC_D8/LVDS_CLKP/EBC_SDCE0/MIPI_CLKP (out), 49 LCDC_D7/LVDS_TX3N/EBC_SDDO7/MIPI_D3N (out), 50 LCDC_D6/LVDS_TX3P/EBC_SDDO6/MIPI_D3P (out), 51 LCDC_D5/LVDS_TX2N/EBC_SDDO5/MIPI_D2N (out), 52 LCDC_D4/LVDS_TX2P/EBC_SDDO4/MIPI_D2P (out), 53 LCDC_D3/LVDS_TX1N/EBC_SDDO3/MIPI_D1N (out), 54 LCDC_D2/LVDS_TX1P/EBC_SDDO2/MIPI_D1P (out), 55 LCDC_D1/LVDS_TX0N/EBC_SDDO1/MIPI_D0N (out), 56 LCDC_D0/LVDS_TX0P/EBC_SDDO0/MIPI_D0P (out)
part B pins: 70 CIF_D0/TS_D0_d (in), 71 CIF_D1/TS_D1_d (in), 72 CIF_D2/TS_D2_d (in), 73 CIF_D3/TS_D3_d (in), 74 CIF_D4/TS_D4_d (in), 75 CIF_D5/TS_D5_d (in), 76 CIF_D6/TS_D6_d (in), 77 CIF_D7/TS_D7_d (in), 78 CIF_VSYNC/TS_SYNC_d (in), 79 CIF_HREF/TS_FAIL_d (in), 80 CIF_CLKI/TS_VALID_d (in), 81 CIF_CLKO/TS_CLKO_d (io), 83 CIF_PDN1/GPIO3_B3_u (io)
part C pins: 22 C/DPLL_DVDD11 (power), 23 PLL_VCCIO (power), 24 A/GPLL_DVDD11 (power), 25 XOUT24M (out), 26 XIN24M (in), 27 XVSS (power), 57 USB1_DP (io), 58 USB1_DN (io), 59 USB_AVDD33 (power), 60 USB_DVDD11 (power), 61 USB_EXTR (power), 62 OTG_VBUS (io), 63 OTG_ID, 64 OTG_DN (io), 65 OTG_DP (io), 66 SAR_AVDD33 (power), 67 SARADC_CH0 (in), 68 EFUSE/SARADC_CH2 (in), 110 NPOR (in)
part D pins: 111 GPIO1_C5/SDMMC0_D3/JTAG_TMS (io), 112 GPIO1_C4/SDMMC0_D2/JTAG_TCK (io), 113 GPIO1_C3/SDMMC0_D1/UART2_RX (io), 114 GPIO1_C2/SDMMC0_D0/UART2_TX (io), 116 GPIO1_C0/SDMMC0_CLKO (io), 127 GPIO1_B7/SDMMC0_CMD (io)
part E pins: 92 GPIO1_C6/FLASH_CS2/EMMC_CMD_u, 93 GPIO1_D0/FLASH_D0/EMMC_D0/SFC_SIO0_u (io), 94 GPIO1_D1/FLASH_D1/EMMC_D1/SFC_SIO1_u (io), 95 GPIO1_D2/FLASH_D2/EMMC_D2/SFC_SIO2_u (io), 96 GPIO1_D3/FLASH_D3/EMMC_D3/SFC_SIO3_u (io), 97 GPIO1_D4/FLASH_D4/EMMC_D4/SPI_RXD_u (io), 98 GPIO1_D5/FLASH_D5/EMMC_D5/SPI_TXD_u (io), 99 GPIO1_D6/FLASH_D6/EMMC_D6/SPI_CSN0_u (io), 100 GPIO1_D7/FLASH_D7/EMMC_D7/SPI_CSN1_u (io), 102 GPIO2_A0/FLASH_ALE/SPI_CLK_d (io), 103 GPIO2_A1/FLASH_CLE_d (io), 104 GPIO2_A2/FLASH_WRN/SFC_CSN0_u (io), 105 GPIO2_A3/FLASH_RDN/SFC_CSN1_u (io), 106 GPIO2_A4/FLASH_RDY/EMMC_CMD/SFC_CLK_u (io), 107 GPIO2_A6/FLASH_CS0_u (io), 109 GPIO2_A7/FLASH_DQS/EMMC_CLKO_u (io)
part F pins: 132 CODEC_VCM (io), 133 CODEC_MIC (in), 134 CODEC_AVSS1, 135 CODEC_AOL (out), 136 CODEC_AVDD (power), 137 CODEC_AOR (out), 138 CODEC_AVSS2
part G pins: 82 GPIO3_C1/DRIVE_VBUS/PMIC_SLEEP_d (io), 84 GPIO0_D2/PWM0_d (io), 85 GPIO0_D3/PWM1_d (io), 117 GPIO1_B3/UART1_RTSN/SPI_CSN0 (io), 118 GPIO1_B2/UART1_RX/SPI_RXD (io), 119 GPIO1_B1/UART1_TX/SPI_TXD (io), 120 GPIO1_B0/UART1_CTSN/SPI_CLK (io), 121 GPIO1_A5/I2S_SDI/SDMMC1_D3 (io), 122 GPIO1_A4/I2S_SDO/SDMMC1_D2 (io), 123 GPIO1_A2/I2S_LRCK_RX/SDMMC1_D1 (io), 124 GPIO1_A1/I2S_SCLK/SDMMC1_D0 (io), 125 GPIO1_A0/I2S_MCLK/SDMMC1_CLKO/XIN_32K (io), 128 GPIO0_A3/I2C1_SDA/SDMMC1_CMD (io), 129 GPIO0_A2/I2C1_SCL (io), 130 GPIO0_A1/I2C0_SDA (io), 131 GPIO0_A0/I2C0_SCL (io)
part H pins: 1 DDR_A0 (out), 2 DDR_A2 (out), 3 DDR_A5 (out), 4 DDR_A9 (out), 5 DDR_A13 (out), 6 DDR_A7 (out), 7 DDR_ODT1 (out), 8 DDR_D10 (io), 9 DDR_D8 (io), 10 VCC_DDR (power), 11 DDR_DQS1 (out), 12 DDR_DQS1n (out), 14 DDR_D14 (io), 15 DDR_D12 (io), 16 DDR_D15 (io), 17 DDR_D13 (io), 18 VCC_DDR (power), 19 DDR_D9 (io), 20 DDR_DQM1 (out), 21 DDR_D11 (io), 139 DDR_VSS, 140 DDR_D2 (io), 141 DDR_D0 (io), 142 VCC_DDR (power), 143 DDR_DQS0 (out), 144 DDR_DQS0n (out), 145 DDR_D6 (io), 146 DDR_D4 (io), 147 DDR_D7 (io), 148 DDR_D5 (io), 149 VCC_DDR (power), 150 DDR_D1 (io), 151 DDR_DQM0 (out), 152 DDR_D3 (io), 153 DDR_A8 (out), 154 DDR_A6 (out), 155 DDR_A14 (out), 156 DDR_A15 (out), 157 DDR_A11 (out), 158 DDR_A1 (out), 159 DDR_A4 (out), 160 DDR_A12 (out), 162 DDR_BA1 (out), 163 DDR_BA0 (out), 164 DDR_A10 (out), 165 DDR_CKE (out), 166 DDR_ODT0 (out), 167 DDR_CLKn (out), 168 DDR_CLK (out), 169 VCC_DDR (power), 170 DDR_RASn (out), 171 DDR_CASn (out), 172 DDR_CS1 (out), 173 DDR_CS0 (out), 174 DDR_WEn (out), 175 DDR_BA2 (out), 176 DDR_A3 (out)
part I pins: 13 CVDD1 (power), 29 CVDD2 (power), 35 VCCIO1 (power), 69 CVDD3 (power), 86 AVDD1 (power), 87 VCCIO2 (power), 88 AVDD2 (power), 89 AVDD3 (power), 90 AVDD4 (power), 91 AVDD5 (power), 101 VCCIO3 (power), 108 CVDD4 (power), 115 VDDIO4 (power), 126 CVDD6 (power), 161 CVDD5 (power), 177 VSS (power)
part A text: LCDC Module
part B text: VIP Module
part C text: Crystal/USB/ADC / PLL/RESET / Module
part D text: SDMMC Module
part E text: NAND FLASH Module
part F text: CODEC
part G text: GPIO/UART/PWM / I2C/I2S Module
part H text: DDR Module
part I text: POWER Module

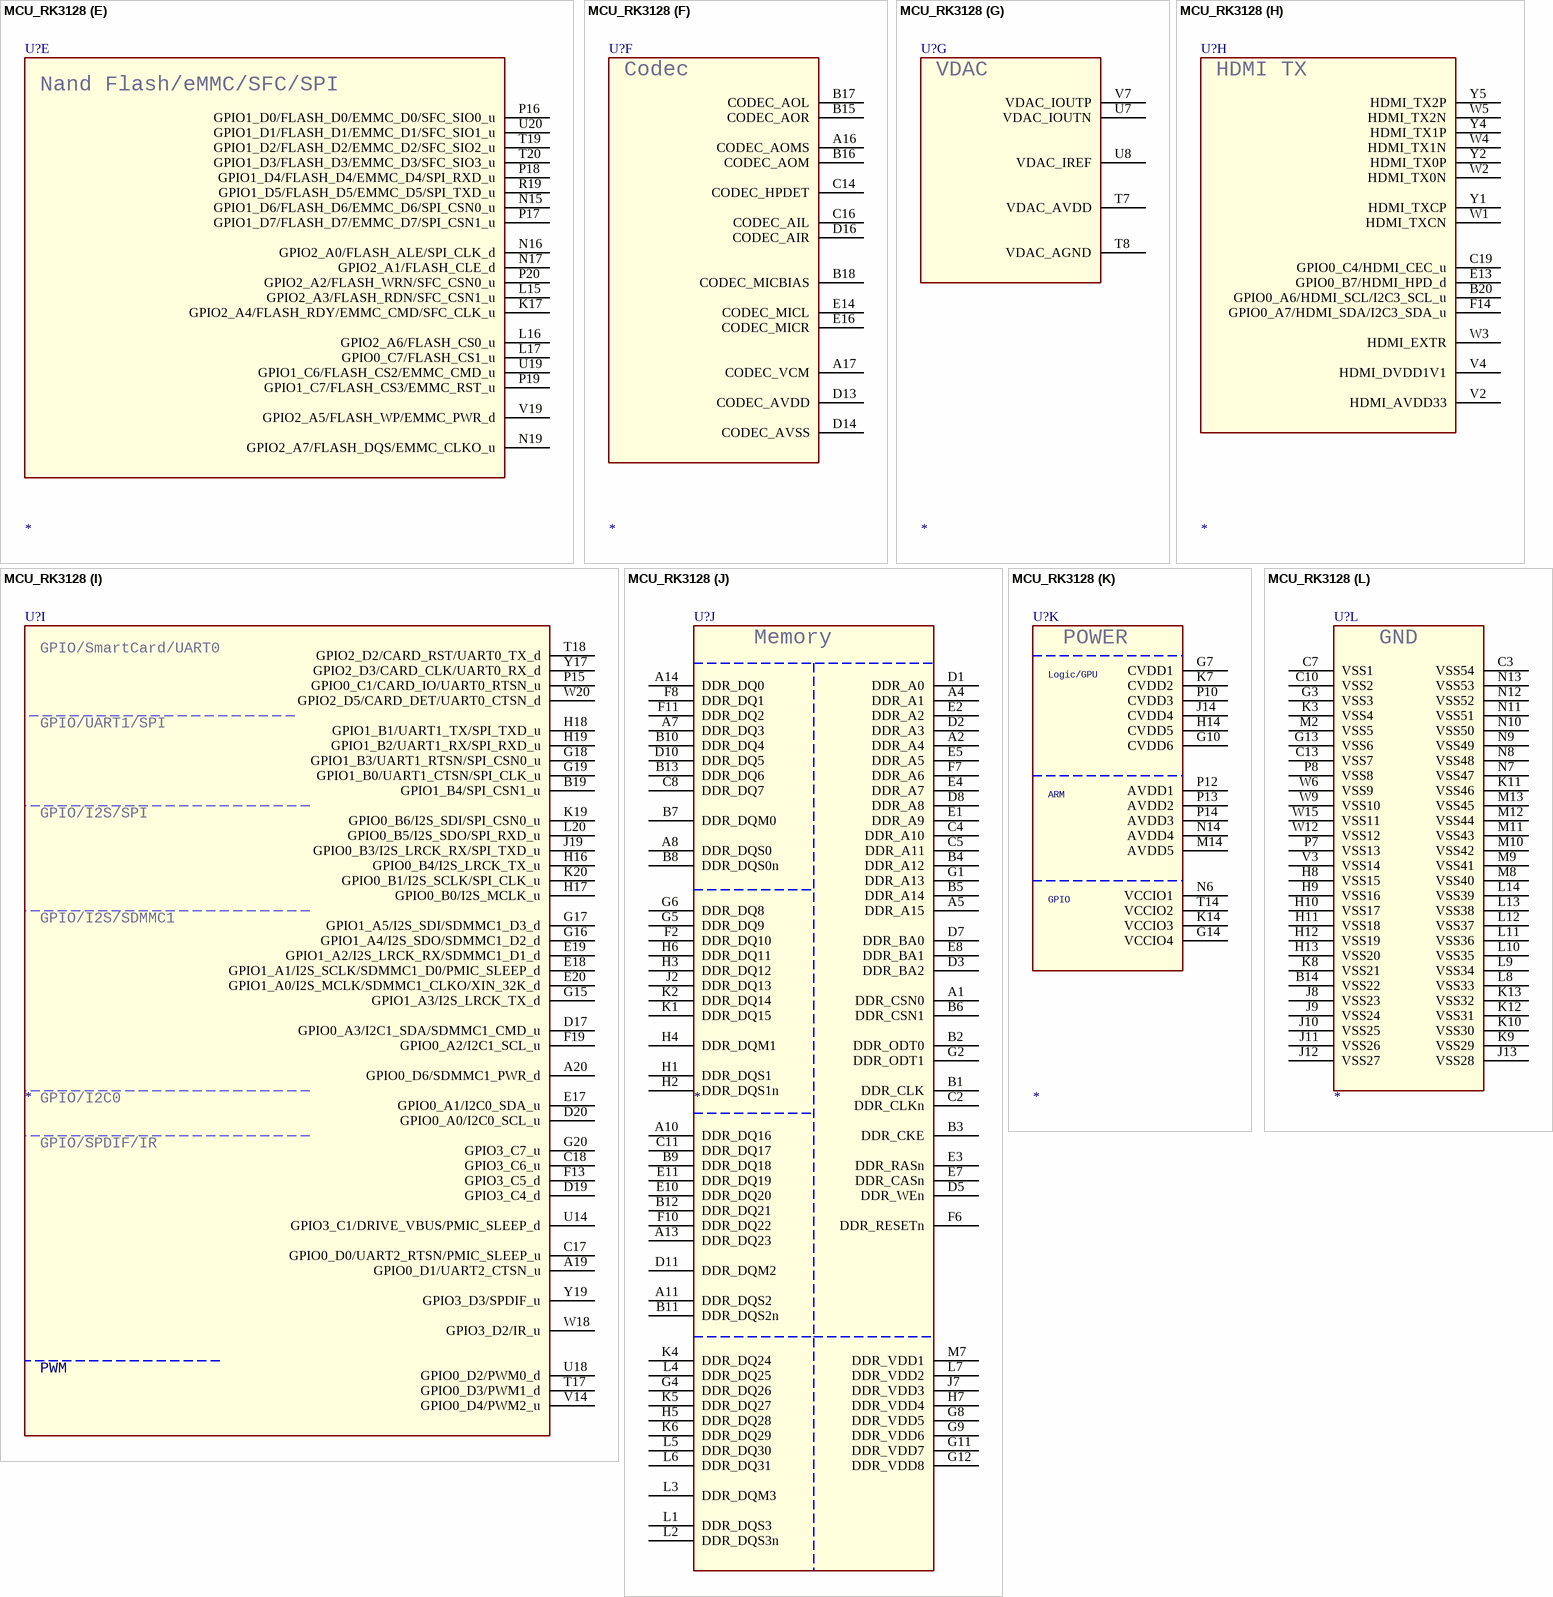
[diagram p11: symbol MCU_RK3128]

## MCU_RK3128
designator U?
footprint BGA316-14X14-0.65
part A pins: P1 GPIO2_C2/LCDC_D16/EBC_GDSP/GMAC_TXD1_d, P2 GPIO2_C3/LCDC_D17/EBC_GDPWR0/GMAC_TXD0_d, P3 GPIO2_C5/LCDC_D19/EBC_SDSHR/I2C2_SCL/GMAC_RXD2_d, P4 GPIO2_C7/LCDC_D21/EBC_BORDER1/GPS_MAG/GMAC_TXD3_d, P5 GPIO2_C6/LCDC_D20/EBC_BORDER0/GPS_SIGN/GMAC_TXD2_d, P6 GPIO2_D0/LCDC_D22/EBC_GDPWR1/GPS_CLK/GMAC_COL_d, R2 GPIO2_C1/LCDC_D15/EBC_GDOE/GMAC_RXD0_d, R7 LVDS/MIPI_VCC, R8 LVDS/MIPI_VDD11, T1 GPIO2_B7/LCDC_D13/EBC_SDCE5/GMAC_RXER_d, T2 GPIO2_D1/LCDC_D23/EBC_GDPWR2/GMAC_MDC_d, T3 GPIO2_C0/LCDC_D14/EBC_VCOM/GMAC_RXD1_d, T4 GPIO2_C4/LCDC_D18/EBC_GDRL/I2C2_SDA/GMAC_RXD3_d, T5 GPIO2_B1/LCDC_HSYNC/EBC_SDLE/GMAC_TXCLK_d, U1 GPIO2_B3/LCDC_DEN/EBC_GDCLK/GMAC_RXCLK_d, U2 GPIO2_B5/LCDC_D11/EBC_SDCE3/GMAC_TXEN_d, U3 GPIO2_B4/LCDC_D10/EBC_SDCE2/GMAC_MDIO_d, U4 GPIO2_B6/LCDC_D12/EBC_SDCE4/GMAC_CLK_d, U5 GPIO2_B0/LCDC_CLK/EBC_SDCLK/GMAC_RXDV_d, V5 GPIO2_B2/LCDC_VSYNC/EBC_SDOE/GMAC_CRS_d, V8 LVDS/MIPI_EXTR, W7 LCDC_D9/LVDS_CLKN/EBC_SDCE1/MIPI_CLKN, W8 LCDC_D6/LVDS_TX3P/EBC_SDDO6/MIPI_D3P, W10 LCDC_D5/LVDS_TX2N/EBC_SDDO5/MIPI_D2N, W11 LCDC_D3/LVDS_TX1N/EBC_SDDO3/MIPI_D1N, W13 LCDC_D1/LVDS_TX0N/EBC_SDDO1/MIPI_D0N, Y7 LCDC_D8/LVDS_CLKP/EBC_SDCE0/MIPI_CLKP, Y8 LCDC_D7/LVDS_TX3N/EBC_SDDO7/MIPI_D3N, Y10 LCDC_D4/LVDS_TX2P/EBC_SDDO4/MIPI_D2P, Y11 LCDC_D2/LVDS_TX1P/EBC_SDDO2/MIPI_D1P, Y13 LCDC_D0/LVDS_TX0P/EBC_SDDO0/MIPI_D0P
part B pins: K18 GPIO3_D7/CIF_PDN0/TEST_CLKO_d, R13 CIF_D5/TS_D5_d, R14 CIF_D6/TS_D6_d, T13 CIF_D4/TS_D4_d, T16 CIF_D7/TS_D7_d, U13 CIF_VSYNC/TS_SYNC_d, U16 CIF_CLKI/TS_VALID_d, U17 CIF_D0/TS_D0_d, V13 CIF_CLKO/TS_CLKO_d, V16 CIF_D3/TS_D3_d, V17 CIF_D1/TS_D1_d, V18 CIF_HREF/TS_FAIL_d, W17 CIF_D2/TS_D2_d, Y20 CIF_PDN1/GPIO3_B3_u
part C pins: H15 TEST_d, N1 XOUT24M, N2 XIN24M, N3 A/GPLL_DVDD11, N4 C/DPLL_DVDD11, N5 PLL_VCCIO, N20 NPOR_d, P9 SAR_AVDD33, P11 ADCIN0, R10 EFUSE, R11 OTG_ID, T10 USB_AVDD33, T11 USB_DVDD11, U10 ADCIN1, U11 OTG_VBUS, V10 ADCIN2, V11 USB_EXTR, W14 HOST_DP, W16 OTG_DP, Y14 HOST_DM, Y16 OTG_DM
part D pins: D18 GPIO1_B7/SDMMC0_CMD_u, H20 GPIO1_C0/SDMMC0_CLKO_d, K15 GPIO1_C3/SDMMC0_D1/UART2_RX_u, K16 GPIO1_C4/SDMMC0_D2/JTAG_TCK_u, L18 GPIO1_C2/SDMMC0_D0/UART2_TX_u, L19 GPIO1_A7/SDMMC0_WP_d, M19 GPIO1_C5/SDMMC0_D3/JTAG_TMS_u, N18 GPIO1_B6/SDMMC0_PWR_d, W19 GPIO1_C1/SDMMC0_DET_u
part E pins: K17 GPIO2_A4/FLASH_RDY/EMMC_CMD/SFC_CLK_u, L15 GPIO2_A3/FLASH_RDN/SFC_CSN1_u, L16 GPIO2_A6/FLASH_CS0_u, L17 GPIO0_C7/FLASH_CS1_u, N15 GPIO1_D6/FLASH_D6/EMMC_D6/SPI_CSN0_u, N16 GPIO2_A0/FLASH_ALE/SPI_CLK_d, N17 GPIO2_A1/FLASH_CLE_d, N19 GPIO2_A7/FLASH_DQS/EMMC_CLKO_u, P16 GPIO1_D0/FLASH_D0/EMMC_D0/SFC_SIO0_u, P17 GPIO1_D7/FLASH_D7/EMMC_D7/SPI_CSN1_u, P18 GPIO1_D4/FLASH_D4/EMMC_D4/SPI_RXD_u, P19 GPIO1_C7/FLASH_CS3/EMMC_RST_u, P20 GPIO2_A2/FLASH_WRN/SFC_CSN0_u, R19 GPIO1_D5/FLASH_D5/EMMC_D5/SPI_TXD_u, T19 GPIO1_D2/FLASH_D2/EMMC_D2/SFC_SIO2_u, T20 GPIO1_D3/FLASH_D3/EMMC_D3/SFC_SIO3_u, U19 GPIO1_C6/FLASH_CS2/EMMC_CMD_u, U20 GPIO1_D1/FLASH_D1/EMMC_D1/SFC_SIO1_u, V19 GPIO2_A5/FLASH_WP/EMMC_PWR_d
part F pins: A16 CODEC_AOMS, A17 CODEC_VCM, B15 CODEC_AOR, B16 CODEC_AOM, B17 CODEC_AOL, B18 CODEC_MICBIAS, C14 CODEC_HPDET, C16 CODEC_AIL, D13 CODEC_AVDD, D14 CODEC_AVSS, D16 CODEC_AIR, E14 CODEC_MICL, E16 CODEC_MICR
part G pins: T7 VDAC_AVDD, T8 VDAC_AGND, U7 VDAC_IOUTN, U8 VDAC_IREF, V7 VDAC_IOUTP
part H pins: B20 GPIO0_A6/HDMI_SCL/I2C3_SCL_u, C19 GPIO0_C4/HDMI_CEC_u, E13 GPIO0_B7/HDMI_HPD_d, F14 GPIO0_A7/HDMI_SDA/I2C3_SDA_u, V2 HDMI_AVDD33, V4 HDMI_DVDD1V1, W1 HDMI_TXCN, W2 HDMI_TX0N, W3 HDMI_EXTR, W4 HDMI_TX1N, W5 HDMI_TX2N, Y1 HDMI_TXCP, Y2 HDMI_TX0P, Y4 HDMI_TX1P, Y5 HDMI_TX2P
part I pins: A19 GPIO0_D1/UART2_CTSN_u, A20 GPIO0_D6/SDMMC1_PWR_d, B19 GPIO1_B4/SPI_CSN1_u, C17 GPIO0_D0/UART2_RTSN/PMIC_SLEEP_u, C18 GPIO3_C6_u, D17 GPIO0_A3/I2C1_SDA/SDMMC1_CMD_u, D19 GPIO3_C4_d, D20 GPIO0_A0/I2C0_SCL_u, E17 GPIO0_A1/I2C0_SDA_u, E18 GPIO1_A1/I2S_SCLK/SDMMC1_D0/PMIC_SLEEP_d, E19 GPIO1_A2/I2S_LRCK_RX/SDMMC1_D1_d, E20 GPIO1_A0/I2S_MCLK/SDMMC1_CLKO/XIN_32K_d, F13 GPIO3_C5_d, F19 GPIO0_A2/I2C1_SCL_u, G15 GPIO1_A3/I2S_LRCK_TX_d, G16 GPIO1_A4/I2S_SDO/SDMMC1_D2_d, G17 GPIO1_A5/I2S_SDI/SDMMC1_D3_d, G18 GPIO1_B3/UART1_RTSN/SPI_CSN0_u, G19 GPIO1_B0/UART1_CTSN/SPI_CLK_u, G20 GPIO3_C7_u, H16 GPIO0_B4/I2S_LRCK_TX_u, H17 GPIO0_B0/I2S_MCLK_u, H18 GPIO1_B1/UART1_TX/SPI_TXD_u, H19 GPIO1_B2/UART1_RX/SPI_RXD_u, J19 GPIO0_B3/I2S_LRCK_RX/SPI_TXD_u, K19 GPIO0_B6/I2S_SDI/SPI_CSN0_u, K20 GPIO0_B1/I2S_SCLK/SPI_CLK_u, L20 GPIO0_B5/I2S_SDO/SPI_RXD_u, P15 GPIO0_C1/CARD_IO/UART0_RTSN_u, T17 GPIO0_D3/PWM1_d, T18 GPIO2_D2/CARD_RST/UART0_TX_d, U14 GPIO3_C1/DRIVE_VBUS/PMIC_SLEEP_d, U18 GPIO0_D2/PWM0_d, V14 GPIO0_D4/PWM2_u, W18 GPIO3_D2/IR_u, W20 GPIO2_D5/CARD_DET/UART0_CTSN_d, Y17 GPIO2_D3/CARD_CLK/UART0_RX_d, Y19 GPIO3_D3/SPDIF_u
part J pins: A1 DDR_CSN0, A2 DDR_A4, A4 DDR_A1, A5 DDR_A15, A7 DDR_DQ3, A8 DDR_DQS0, A10 DDR_DQ16, A11 DDR_DQS2, A13 DDR_DQ23, A14 DDR_DQ0, B1 DDR_CLK, B2 DDR_ODT0, B3 DDR_CKE, B4 DDR_A12, B5 DDR_A14, B6 DDR_CSN1, B7 DDR_DQM0, B8 DDR_DQS0n, B9 DDR_DQ18, B10 DDR_DQ4, B11 DDR_DQS2n, B12 DDR_DQ21, B13 DDR_DQ6, C2 DDR_CLKn, C4 DDR_A10, C5 DDR_A11, C8 DDR_DQ7, C11 DDR_DQ17, D1 DDR_A0, D2 DDR_A3, D3 DDR_BA2, D5 DDR_WEn, D7 DDR_BA0, D8 DDR_A8, D10 DDR_DQ5, D11 DDR_DQM2, E1 DDR_A9, E2 DDR_A2, E3 DDR_RASn, E4 DDR_A7, E5 DDR_A5, E7 DDR_CASn, E8 DDR_BA1, E10 DDR_DQ20, E11 DDR_DQ19, F2 DDR_DQ10, F6 DDR_RESETn, F7 DDR_A6, F8 DDR_DQ1, F10 DDR_DQ22, F11 DDR_DQ2, G1 DDR_A13, G2 DDR_ODT1, G4 DDR_DQ26, G5 DDR_DQ9, G6 DDR_DQ8, G8 DDR_VDD5, G9 DDR_VDD6, G11 DDR_VDD7, G12 DDR_VDD8, H1 DDR_DQS1, H2 DDR_DQS1n, H3 DDR_DQ12, H4 DDR_DQM1, H5 DDR_DQ28, H6 DDR_DQ11, H7 DDR_VDD4, J2 DDR_DQ13, J7 DDR_VDD3, K1 DDR_DQ15, K2 DDR_DQ14, K4 DDR_DQ24, K5 DDR_DQ27, K6 DDR_DQ29, L1 DDR_DQS3, L2 DDR_DQS3n, L3 DDR_DQM3, L4 DDR_DQ25, L5 DDR_DQ30, L6 DDR_DQ31, L7 DDR_VDD2, M7 DDR_VDD1
part K pins: G7 CVDD1, G10 CVDD6, G14 VCCIO4, H14 CVDD5, J14 CVDD4, K7 CVDD2, K14 VCCIO3, M14 AVDD5, N6 VCCIO1, N14 AVDD4, P10 CVDD3, P12 AVDD1, P13 AVDD2, P14 AVDD3, T14 VCCIO2
part L pins: B14 VSS22, C3 VSS54, C7 VSS1, C10 VSS2, C13 VSS7, G3 VSS3, G13 VSS6, H8 VSS15, H9 VSS16, H10 VSS17, H11 VSS18, H12 VSS19, H13 VSS20, J8 VSS23, J9 VSS24, J10 VSS25, J11 VSS26, J12 VSS27, J13 VSS28, K3 VSS4, K8 VSS21, K9 VSS29, K10 VSS30, K11 VSS46, K12 VSS31, K13 VSS32, L8 VSS33, L9 VSS34, L10 VSS35, L11 VSS36, L12 VSS37, L13 VSS38, L14 VSS39, M2 VSS5, M8 VSS40, M9 VSS41, M10 VSS42, M11 VSS43, M12 VSS44, M13 VSS45, N7 VSS47, N8 VSS48, N9 VSS49, N10 VSS50, N11 VSS51, N12 VSS52, N13 VSS53, P7 VSS13, P8 VSS8, V3 VSS14, W6 VSS9, W9 VSS10, W12 VSS12, W15 VSS11
part A text: LCDC/LVDS/MIPI/GMAC/EMAC
part B text: CIF/TS
part C text: NPOR; USB; Crystal; PLL Power; SARADC/EFUSE
part D text: SDMMC0
part E text: Nand Flash/eMMC/SFC/SPI
part F text: Codec
part G text: VDAC
part H text: HDMI TX
part I text: GPIO/SmartCard/UART0; GPIO/UART1/SPI; GPIO/I2S/SPI; GPIO/I2S/SDMMC1; GPIO/I2C0; GPIO/SPDIF/IR; PWM
part J text: Memory
part K text: POWER; Logic/GPU; ARM; GPIO
part L text: GND

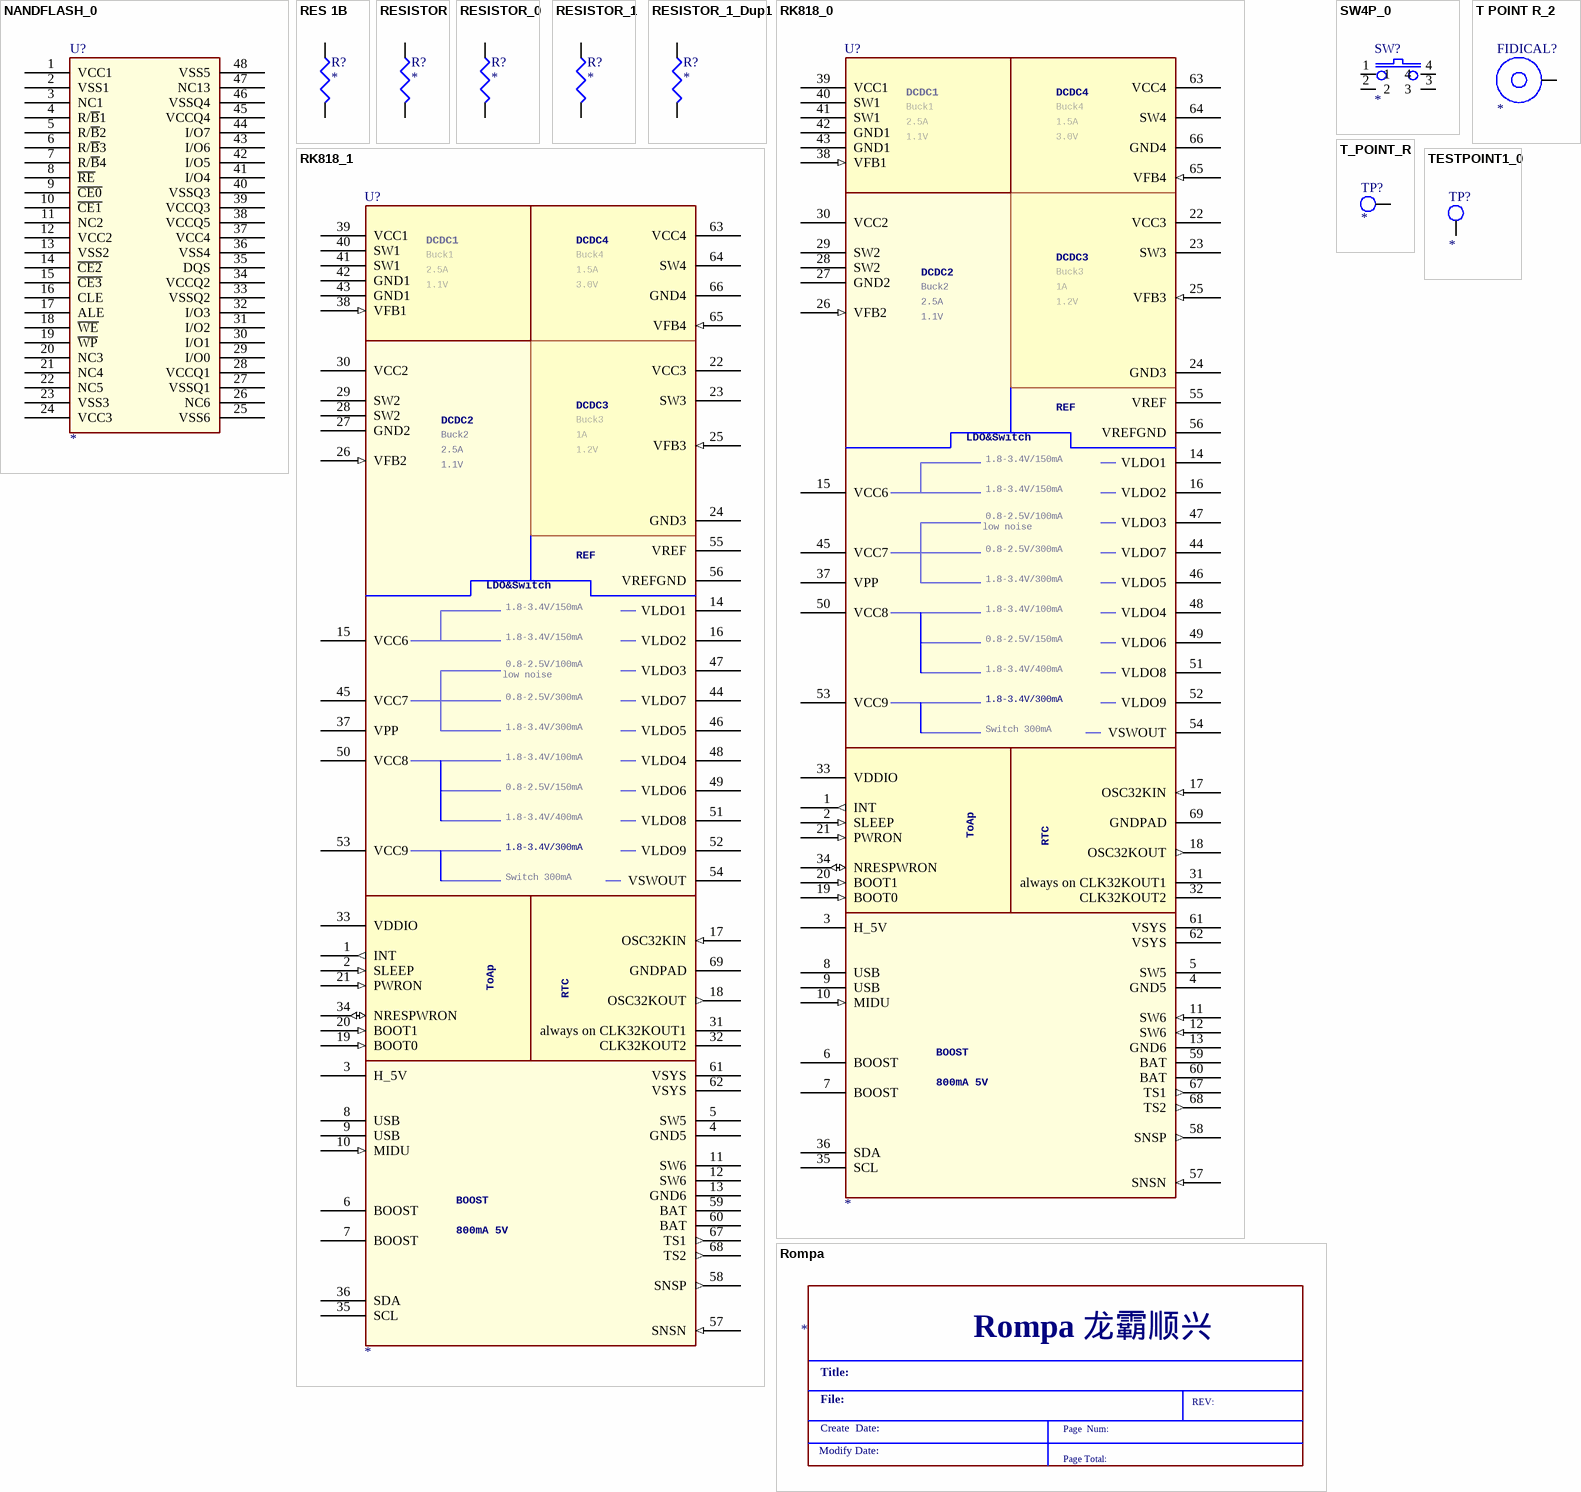
[diagram p12: symbols NANDFLASH_0 to TESTPOINT1_0]

## NANDFLASH_0
designator U?
footprint TSOP1-48
pins: 1 VCC1 (power), 2 VSS1 (power), 3 NC1, 4 R/~{B}1, 5 R/~{B}2, 6 R/~{B}3, 7 R/~{B}4, 8 ~{RE}, 9 ~{CE0}, 10 ~{CE1}, 11 NC2, 12 VCC2 (power), 13 VSS2 (power), 14 ~{CE2}, 15 ~{CE3}, 16 CLE, 17 ALE, 18 ~{WE}, 19 ~{WP}, 20 NC3, 21 NC4, 22 NC5, 23 VSS3 (power), 24 VCC3 (power), 25 VSS6 (power), 26 NC6, 27 VSSQ1, 28 VCCQ1, 29 I/O0, 30 I/O1, 31 I/O2, 32 I/O3, 33 VSSQ2, 34 VCCQ2 (power), 35 DQS, 36 VSS4 (power), 37 VCC4 (power), 38 VCCQ5 (power), 39 VCCQ3 (power), 40 VSSQ3, 41 I/O4, 42 I/O5, 43 I/O6, 44 I/O7, 45 VCCQ4, 46 VSSQ4, 47 NC13, 48 VSS5 (power)

## RES 1B
designator R?
pins: 1, 2

## RESISTOR
designator R?
footprint R0402
pins: 1, 2

## RESISTOR_0
designator R?
pins: 1, 2

## RESISTOR_1
designator R?
pins: 1, 2

## RESISTOR_1_Dup1
designator R?
pins: 1, 2

## RK818_0
designator U?
footprint QFN68
pins: 1 INT (out), 2 SLEEP (in), 3 H_5V (power), 4 GND5 (power), 5 SW5 (power), 6 BOOST (power), 7 BOOST (power), 8 USB (power), 9 USB (power), 10 MIDU (in), 11 SW6 (in), 12 SW6 (in), 13 GND6 (power), 14 VLDO1 (power), 15 VCC6 (power), 16 VLDO2 (power), 17 OSC32KIN (in), 18 OSC32KOUT (out), 19 BOOT0 (in), 20 BOOT1 (in), 21 PWRON (in), 22 VCC3 (power), 23 SW3 (power), 24 GND3 (power), 25 VFB3 (in), 26 VFB2 (in), 27 GND2 (power), 28 SW2 (power), 29 SW2 (power), 30 VCC2 (power), 31 always on CLK32KOUT1 (oc), 32 CLK32KOUT2 (oc), 33 VDDIO (power), 34 NRESPWRON (io), 35 SCL (oc), 36 SDA (oc), 37 VPP, 38 VFB1 (in), 39 VCC1 (power), 40 SW1 (power), 41 SW1 (power), 42 GND1 (power), 43 GND1 (power), 44 VLDO7 (power), 45 VCC7 (power), 46 VLDO5 (power), 47 VLDO3 (power), 48 VLDO4 (power), 49 VLDO6 (power), 50 VCC8 (power), 51 VLDO8 (power), 52 VLDO9 (power), 53 VCC9 (power), 54 VSWOUT (power), 55 VREF (power), 56 VREFGND (power), 57 SNSN (in), 58 SNSP (out), 59 BAT (power), 60 BAT (power), 61 VSYS (power), 62 VSYS (power), 63 VCC4 (power), 64 SW4 (power), 65 VFB4 (in), 66 GND4 (power), 67 TS1 (out), 68 TS2 (out), 69 GNDPAD (power)
text: DCDC1; DCDC4; Buck1; Buck4; 2.5A; 1.5A; 1.1V; 3.0V; DCDC3; Buck3; DCDC2; Buck2; 1A; 1.2V; REF; LDO&Switch; 1.8-3.4V/150mA; 0.8-2.5V/100mA; low noise; 0.8-2.5V/300mA; 1.8-3.4V/300mA; 1.8-3.4V/100mA; 0.8-2.5V/150mA; 1.8-3.4V/400mA; Switch 300mA; ToAp; RTC; 800mA 5V

## RK818_1
designator U?
footprint QFN68
pins: 1 INT (out), 2 SLEEP (in), 3 H_5V (power), 4 GND5 (power), 5 SW5 (power), 6 BOOST (power), 7 BOOST (power), 8 USB (power), 9 USB (power), 10 MIDU (in), 11 SW6 (power), 12 SW6 (power), 13 GND6 (power), 14 VLDO1 (power), 15 VCC6 (power), 16 VLDO2 (power), 17 OSC32KIN (in), 18 OSC32KOUT (out), 19 BOOT0 (in), 20 BOOT1 (in), 21 PWRON (in), 22 VCC3 (power), 23 SW3 (power), 24 GND3 (power), 25 VFB3 (in), 26 VFB2 (in), 27 GND2 (power), 28 SW2 (power), 29 SW2 (power), 30 VCC2 (power), 31 always on CLK32KOUT1 (oc), 32 CLK32KOUT2 (oc), 33 VDDIO (power), 34 NRESPWRON (io), 35 SCL (oc), 36 SDA (oc), 37 VPP, 38 VFB1 (in), 39 VCC1 (power), 40 SW1 (power), 41 SW1 (power), 42 GND1 (power), 43 GND1 (power), 44 VLDO7 (power), 45 VCC7 (power), 46 VLDO5 (power), 47 VLDO3 (power), 48 VLDO4 (power), 49 VLDO6 (power), 50 VCC8 (power), 51 VLDO8 (power), 52 VLDO9 (power), 53 VCC9 (power), 54 VSWOUT (power), 55 VREF (power), 56 VREFGND (power), 57 SNSN (in), 58 SNSP (out), 59 BAT (power), 60 BAT (power), 61 VSYS (power), 62 VSYS (power), 63 VCC4 (power), 64 SW4 (power), 65 VFB4 (in), 66 GND4 (power), 67 TS1 (out), 68 TS2 (out), 69 GNDPAD (power)
text: DCDC1; DCDC4; Buck1; Buck4; 2.5A; 1.5A; 1.1V; 3.0V; DCDC3; Buck3; DCDC2; Buck2; 1A; 1.2V; REF; LDO&Switch; 1.8-3.4V/150mA; 0.8-2.5V/100mA; low noise; 0.8-2.5V/300mA; 1.8-3.4V/300mA; 1.8-3.4V/100mA; 0.8-2.5V/150mA; 1.8-3.4V/400mA; Switch 300mA; ToAp; RTC; 800mA 5V

## Rompa
designator *  (graphical)
text: Rompa 龙霸顺兴; Title:; File:; REV:; Create  Date:; Page  Num:; Modify Date:; Page Total:

## SW4P_0
designator SW?
pins: 1, 2, 3, 4

## T POINT R_2
designator FIDICAL?
footprint FIDICALMARK
pins: 1 TP

## T_POINT_R
designator TP?
pins: 1 TP

## TESTPOINT1_0
designator TP?
footprint TEST
pins: 1